# Altium schematic symbol library fpga_zynq.SchLib: 8 symbols (part 1 of 3)
Pins are listed as number, name and electrical type; pins without a type are passive.

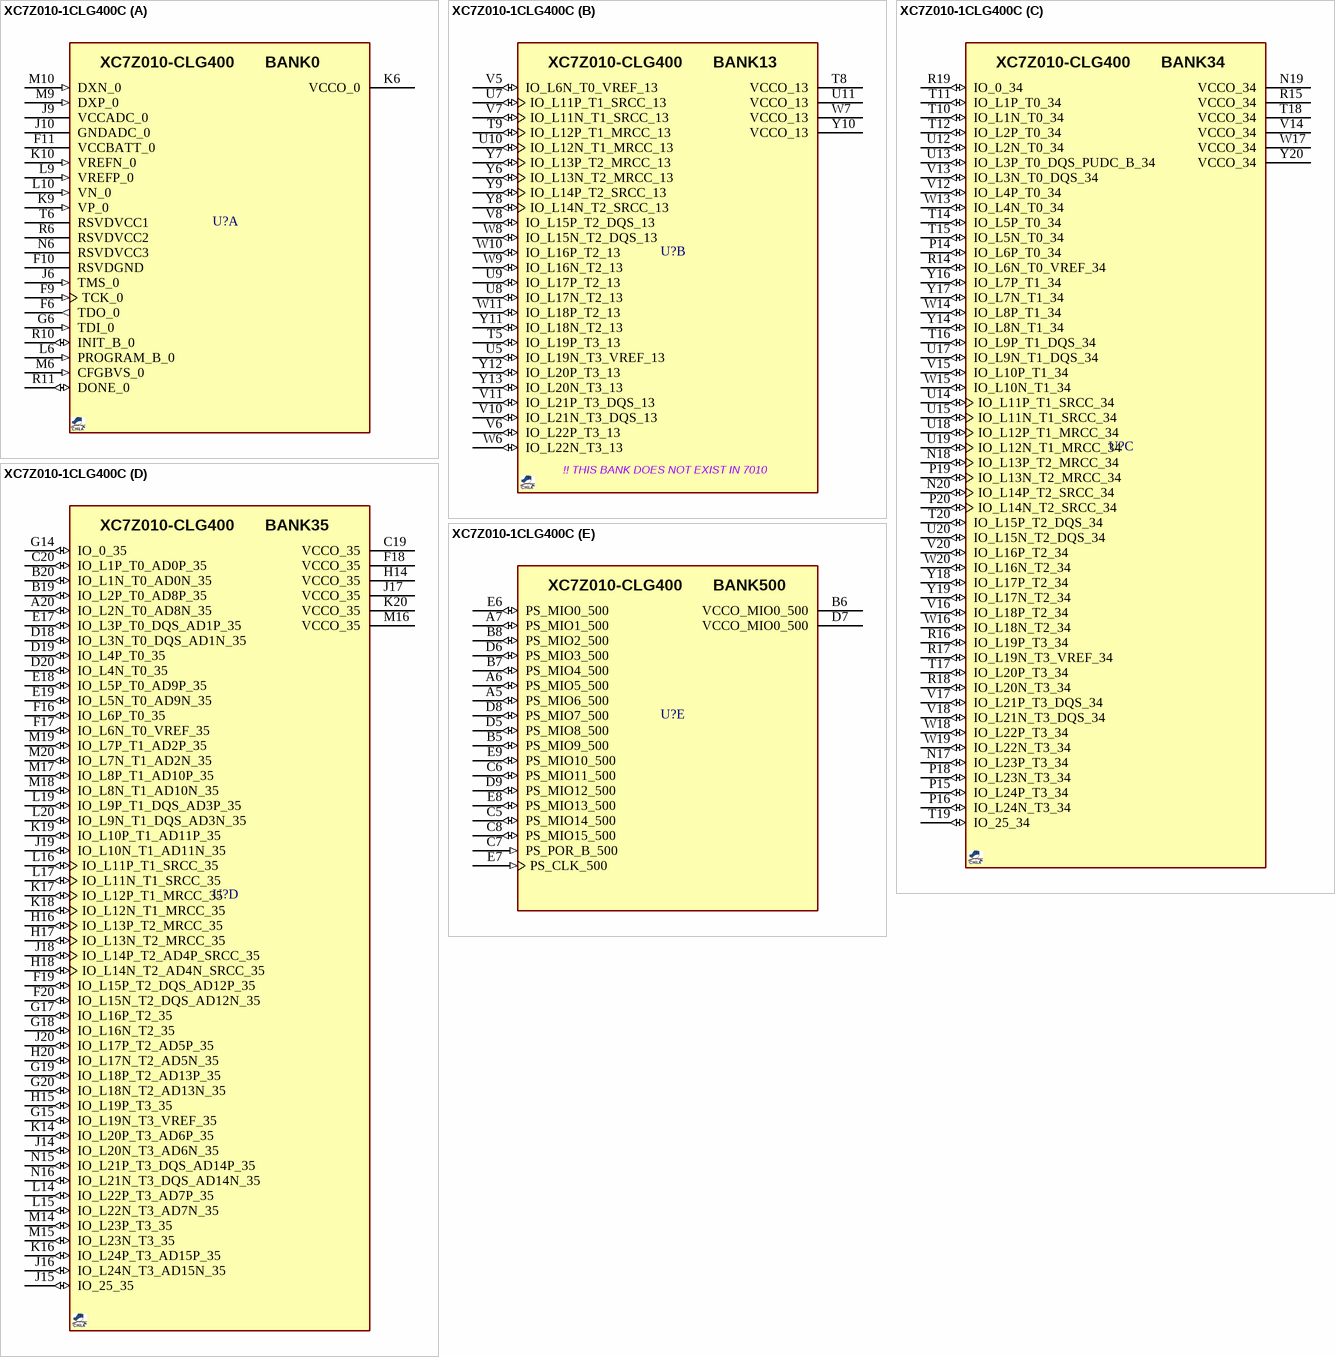
[diagram p0: symbol XC7Z010-1CLG400C]

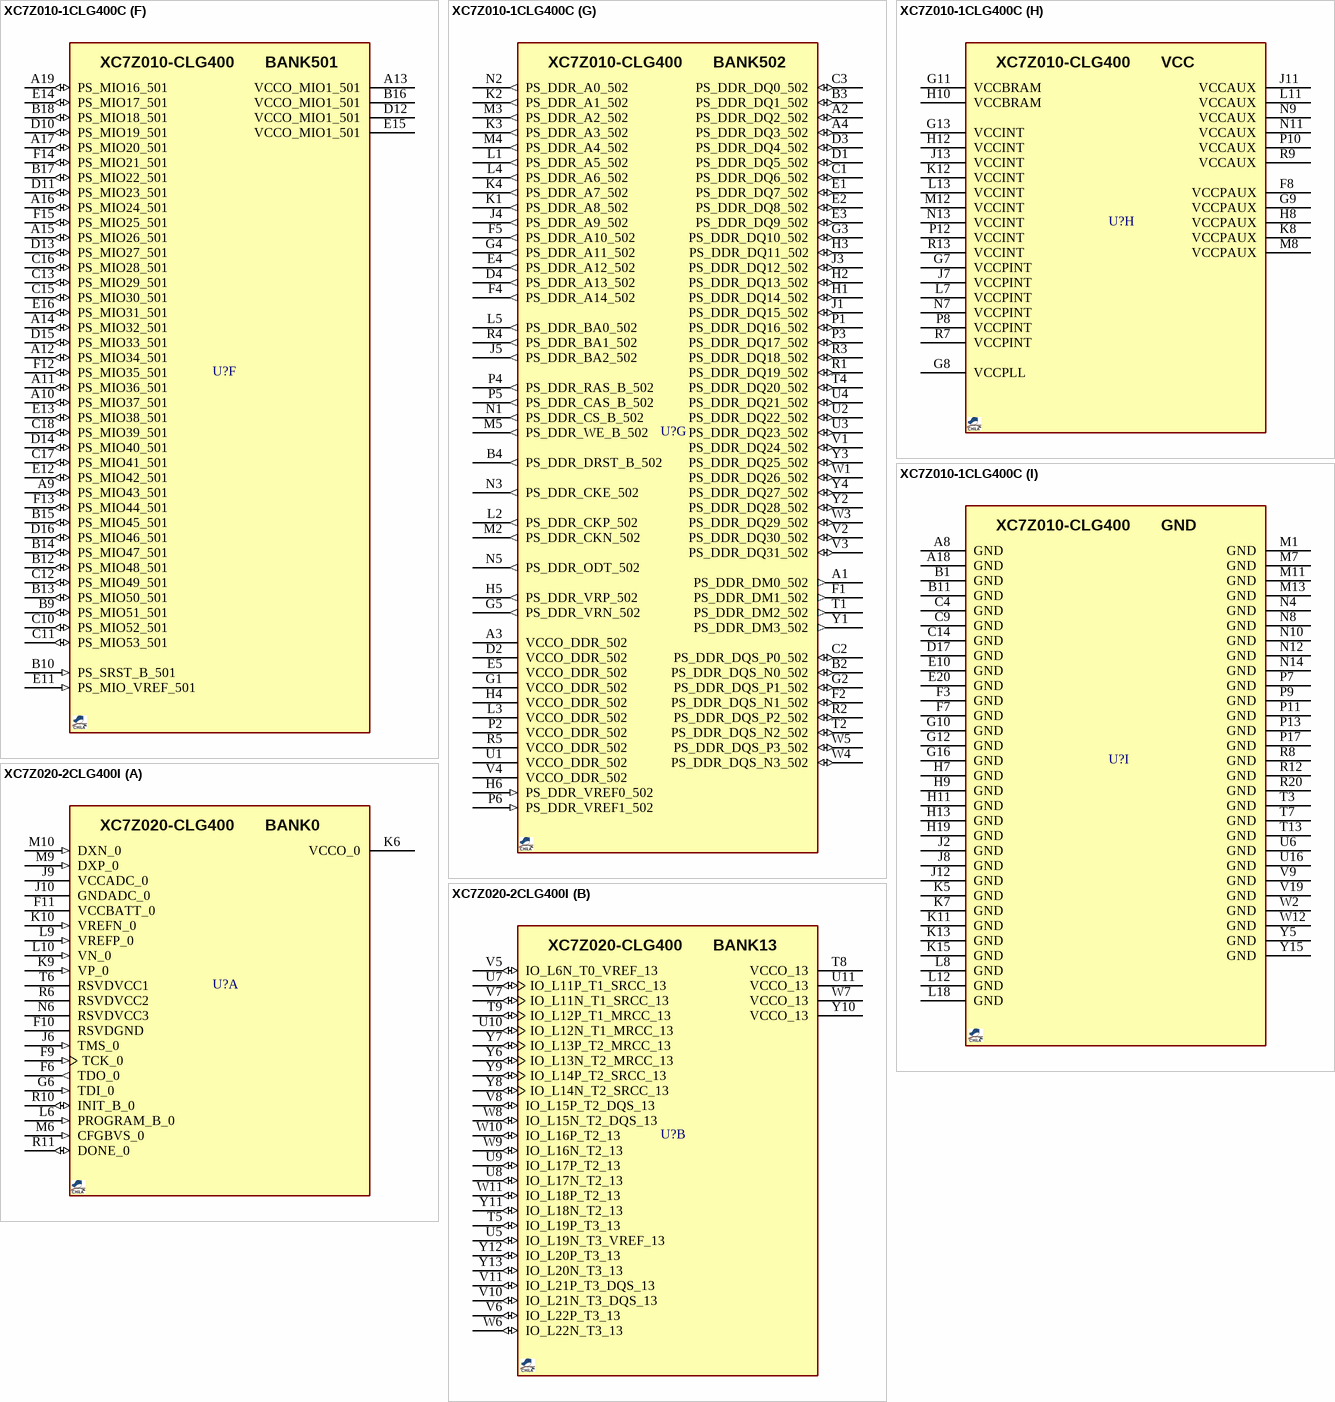
[diagram p1: symbols XC7Z010-1CLG400C to XC7Z020-2CLG400I]

## XC7Z010-1CLG400C
designator U?, comment XC7Z010-CLG400  (value not drawn)
667 MHz Zynq™-7000 AP SoC, 130 PS I/O, 100 FPGA I/O, 400-Ball BGA, Speed Grade 1, Commercial Grade; MANF: Xilinx; MANF_P#: XC7Z010-1CLG400C; VALUE: XC7Z010-CLG400
footprint BGA80_400_S17 (BGA, CLG400, 400-Balls, Body 17x17mm, Pitch 0.8mm)
part A pins: F6 TDO_0 (out), F9 TCK_0 (in), F10 RSVDGND (power), F11 VCCBATT_0 (power), G6 TDI_0 (in), J6 TMS_0 (in), J9 VCCADC_0 (power), J10 GNDADC_0 (power), K6 VCCO_0 (power), K9 VP_0 (in), K10 VREFN_0 (in), L6 PROGRAM_B_0 (in), L9 VREFP_0 (in), L10 VN_0 (in), M6 CFGBVS_0 (in), M9 DXP_0 (in), M10 DXN_0 (in), N6 RSVDVCC3 (power), R6 RSVDVCC2 (power), R10 INIT_B_0 (io), R11 DONE_0 (io), T6 RSVDVCC1 (power)
part B pins: T5 IO_L19P_T3_13 (io), T8 VCCO_13 (power), T9 IO_L12P_T1_MRCC_13 (io), U5 IO_L19N_T3_VREF_13 (io), U7 IO_L11P_T1_SRCC_13 (io), U8 IO_L17N_T2_13 (io), U9 IO_L17P_T2_13 (io), U10 IO_L12N_T1_MRCC_13 (io), U11 VCCO_13 (power), V5 IO_L6N_T0_VREF_13 (io), V6 IO_L22P_T3_13 (io), V7 IO_L11N_T1_SRCC_13 (io), V8 IO_L15P_T2_DQS_13 (io), V10 IO_L21N_T3_DQS_13 (io), V11 IO_L21P_T3_DQS_13 (io), W6 IO_L22N_T3_13 (io), W7 VCCO_13 (power), W8 IO_L15N_T2_DQS_13 (io), W9 IO_L16N_T2_13 (io), W10 IO_L16P_T2_13 (io), W11 IO_L18P_T2_13 (io), Y6 IO_L13N_T2_MRCC_13 (io), Y7 IO_L13P_T2_MRCC_13 (io), Y8 IO_L14N_T2_SRCC_13 (io), Y9 IO_L14P_T2_SRCC_13 (io), Y10 VCCO_13 (power), Y11 IO_L18N_T2_13 (io), Y12 IO_L20P_T3_13 (io), Y13 IO_L20N_T3_13 (io)
part C pins: N17 IO_L23P_T3_34 (io), N18 IO_L13P_T2_MRCC_34 (io), N19 VCCO_34 (power), N20 IO_L14P_T2_SRCC_34 (io), P14 IO_L6P_T0_34 (io), P15 IO_L24P_T3_34 (io), P16 IO_L24N_T3_34 (io), P18 IO_L23N_T3_34 (io), P19 IO_L13N_T2_MRCC_34 (io), P20 IO_L14N_T2_SRCC_34 (io), R14 IO_L6N_T0_VREF_34 (io), R15 VCCO_34 (power), R16 IO_L19P_T3_34 (io), R17 IO_L19N_T3_VREF_34 (io), R18 IO_L20N_T3_34 (io), R19 IO_0_34 (io), T10 IO_L1N_T0_34 (io), T11 IO_L1P_T0_34 (io), T12 IO_L2P_T0_34 (io), T14 IO_L5P_T0_34 (io), T15 IO_L5N_T0_34 (io), T16 IO_L9P_T1_DQS_34 (io), T17 IO_L20P_T3_34 (io), T18 VCCO_34 (power), T19 IO_25_34 (io), T20 IO_L15P_T2_DQS_34 (io), U12 IO_L2N_T0_34 (io), U13 IO_L3P_T0_DQS_PUDC_B_34 (io), U14 IO_L11P_T1_SRCC_34 (io), U15 IO_L11N_T1_SRCC_34 (io), U17 IO_L9N_T1_DQS_34 (io), U18 IO_L12P_T1_MRCC_34 (io), U19 IO_L12N_T1_MRCC_34 (io), U20 IO_L15N_T2_DQS_34 (io), V12 IO_L4P_T0_34 (io), V13 IO_L3N_T0_DQS_34 (io), V14 VCCO_34 (power), V15 IO_L10P_T1_34 (io), V16 IO_L18P_T2_34 (io), V17 IO_L21P_T3_DQS_34 (io), V18 IO_L21N_T3_DQS_34 (io), V20 IO_L16P_T2_34 (io), W13 IO_L4N_T0_34 (io), W14 IO_L8P_T1_34 (io), W15 IO_L10N_T1_34 (io), W16 IO_L18N_T2_34 (io), W17 VCCO_34 (power), W18 IO_L22P_T3_34 (io), W19 IO_L22N_T3_34 (io), W20 IO_L16N_T2_34 (io), Y14 IO_L8N_T1_34 (io), Y16 IO_L7P_T1_34 (io), Y17 IO_L7N_T1_34 (io), Y18 IO_L17P_T2_34 (io), Y19 IO_L17N_T2_34 (io), Y20 VCCO_34 (power)
part D pins: A20 IO_L2N_T0_AD8N_35 (io), B19 IO_L2P_T0_AD8P_35 (io), B20 IO_L1N_T0_AD0N_35 (io), C19 VCCO_35 (power), C20 IO_L1P_T0_AD0P_35 (io), D18 IO_L3N_T0_DQS_AD1N_35 (io), D19 IO_L4P_T0_35 (io), D20 IO_L4N_T0_35 (io), E17 IO_L3P_T0_DQS_AD1P_35 (io), E18 IO_L5P_T0_AD9P_35 (io), E19 IO_L5N_T0_AD9N_35 (io), F16 IO_L6P_T0_35 (io), F17 IO_L6N_T0_VREF_35 (io), F18 VCCO_35 (power), F19 IO_L15P_T2_DQS_AD12P_35 (io), F20 IO_L15N_T2_DQS_AD12N_35 (io), G14 IO_0_35 (io), G15 IO_L19N_T3_VREF_35 (io), G17 IO_L16P_T2_35 (io), G18 IO_L16N_T2_35 (io), G19 IO_L18P_T2_AD13P_35 (io), G20 IO_L18N_T2_AD13N_35 (io), H14 VCCO_35 (power), H15 IO_L19P_T3_35 (io), H16 IO_L13P_T2_MRCC_35 (io), H17 IO_L13N_T2_MRCC_35 (io), H18 IO_L14N_T2_AD4N_SRCC_35 (io), H20 IO_L17N_T2_AD5N_35 (io), J14 IO_L20N_T3_AD6N_35 (io), J15 IO_25_35 (io), J16 IO_L24N_T3_AD15N_35 (io), J17 VCCO_35 (power), J18 IO_L14P_T2_AD4P_SRCC_35 (io), J19 IO_L10N_T1_AD11N_35 (io), J20 IO_L17P_T2_AD5P_35 (io), K14 IO_L20P_T3_AD6P_35 (io), K16 IO_L24P_T3_AD15P_35 (io), K17 IO_L12P_T1_MRCC_35 (io), K18 IO_L12N_T1_MRCC_35 (io), K19 IO_L10P_T1_AD11P_35 (io), K20 VCCO_35 (power), L14 IO_L22P_T3_AD7P_35 (io), L15 IO_L22N_T3_AD7N_35 (io), L16 IO_L11P_T1_SRCC_35 (io), L17 IO_L11N_T1_SRCC_35 (io), L19 IO_L9P_T1_DQS_AD3P_35 (io), L20 IO_L9N_T1_DQS_AD3N_35 (io), M14 IO_L23P_T3_35 (io), M15 IO_L23N_T3_35 (io), M16 VCCO_35 (power), M17 IO_L8P_T1_AD10P_35 (io), M18 IO_L8N_T1_AD10N_35 (io), M19 IO_L7P_T1_AD2P_35 (io), M20 IO_L7N_T1_AD2N_35 (io), N15 IO_L21P_T3_DQS_AD14P_35 (io), N16 IO_L21N_T3_DQS_AD14N_35 (io)
part E pins: A5 PS_MIO6_500 (io), A6 PS_MIO5_500 (io), A7 PS_MIO1_500 (io), B5 PS_MIO9_500 (io), B6 VCCO_MIO0_500 (power), B7 PS_MIO4_500 (io), B8 PS_MIO2_500 (io), C5 PS_MIO14_500 (io), C6 PS_MIO11_500 (io), C7 PS_POR_B_500 (in), C8 PS_MIO15_500 (io), D5 PS_MIO8_500 (io), D6 PS_MIO3_500 (io), D7 VCCO_MIO0_500 (power), D8 PS_MIO7_500 (io), D9 PS_MIO12_500 (io), E6 PS_MIO0_500 (io), E7 PS_CLK_500 (in), E8 PS_MIO13_500 (io), E9 PS_MIO10_500 (io)
part F pins: A9 PS_MIO43_501 (io), A10 PS_MIO37_501 (io), A11 PS_MIO36_501 (io), A12 PS_MIO34_501 (io), A13 VCCO_MIO1_501 (power), A14 PS_MIO32_501 (io), A15 PS_MIO26_501 (io), A16 PS_MIO24_501 (io), A17 PS_MIO20_501 (io), A19 PS_MIO16_501 (io), B9 PS_MIO51_501 (io), B10 PS_SRST_B_501 (in), B12 PS_MIO48_501 (io), B13 PS_MIO50_501 (io), B14 PS_MIO47_501 (io), B15 PS_MIO45_501 (io), B16 VCCO_MIO1_501 (power), B17 PS_MIO22_501 (io), B18 PS_MIO18_501 (io), C10 PS_MIO52_501 (io), C11 PS_MIO53_501 (io), C12 PS_MIO49_501 (io), C13 PS_MIO29_501 (io), C15 PS_MIO30_501 (io), C16 PS_MIO28_501 (io), C17 PS_MIO41_501 (io), C18 PS_MIO39_501 (io), D10 PS_MIO19_501 (io), D11 PS_MIO23_501 (io), D12 VCCO_MIO1_501 (power), D13 PS_MIO27_501 (io), D14 PS_MIO40_501 (io), D15 PS_MIO33_501 (io), D16 PS_MIO46_501 (io), E11 PS_MIO_VREF_501 (in), E12 PS_MIO42_501 (io), E13 PS_MIO38_501 (io), E14 PS_MIO17_501 (io), E15 VCCO_MIO1_501 (power), E16 PS_MIO31_501 (io), F12 PS_MIO35_501 (io), F13 PS_MIO44_501 (io), F14 PS_MIO21_501 (io), F15 PS_MIO25_501 (io)
part G pins: A1 PS_DDR_DM0_502 (out), A2 PS_DDR_DQ2_502 (io), A3 VCCO_DDR_502 (power), A4 PS_DDR_DQ3_502 (io), B2 PS_DDR_DQS_N0_502 (io), B3 PS_DDR_DQ1_502 (io), B4 PS_DDR_DRST_B_502 (out), C1 PS_DDR_DQ6_502 (io), C2 PS_DDR_DQS_P0_502 (io), C3 PS_DDR_DQ0_502 (io), D1 PS_DDR_DQ5_502 (io), D2 VCCO_DDR_502 (power), D3 PS_DDR_DQ4_502 (io), D4 PS_DDR_A13_502 (out), E1 PS_DDR_DQ7_502 (io), E2 PS_DDR_DQ8_502 (io), E3 PS_DDR_DQ9_502 (io), E4 PS_DDR_A12_502 (out), E5 VCCO_DDR_502 (power), F1 PS_DDR_DM1_502 (out), F2 PS_DDR_DQS_N1_502 (io), F4 PS_DDR_A14_502 (out), F5 PS_DDR_A10_502 (out), G1 VCCO_DDR_502 (power), G2 PS_DDR_DQS_P1_502 (io), G3 PS_DDR_DQ10_502 (io), G4 PS_DDR_A11_502 (out), G5 PS_DDR_VRN_502 (out), H1 PS_DDR_DQ14_502 (io), H2 PS_DDR_DQ13_502 (io), H3 PS_DDR_DQ11_502 (io), H4 VCCO_DDR_502 (power), H5 PS_DDR_VRP_502 (out), H6 PS_DDR_VREF0_502 (in), J1 PS_DDR_DQ15_502 (io), J3 PS_DDR_DQ12_502 (io), J4 PS_DDR_A9_502 (out), J5 PS_DDR_BA2_502 (out), K1 PS_DDR_A8_502 (out), K2 PS_DDR_A1_502 (out), K3 PS_DDR_A3_502 (out), K4 PS_DDR_A7_502 (out), L1 PS_DDR_A5_502 (out), L2 PS_DDR_CKP_502 (out), L3 VCCO_DDR_502 (power), L4 PS_DDR_A6_502 (out), L5 PS_DDR_BA0_502 (out), M2 PS_DDR_CKN_502 (out), M3 PS_DDR_A2_502 (out), M4 PS_DDR_A4_502 (out), M5 PS_DDR_WE_B_502 (out), N1 PS_DDR_CS_B_502 (out), N2 PS_DDR_A0_502 (out), N3 PS_DDR_CKE_502 (out), N5 PS_DDR_ODT_502 (out), P1 PS_DDR_DQ16_502 (io), P2 VCCO_DDR_502 (power), P3 PS_DDR_DQ17_502 (io), P4 PS_DDR_RAS_B_502 (out), P5 PS_DDR_CAS_B_502 (out), P6 PS_DDR_VREF1_502 (in), R1 PS_DDR_DQ19_502 (io), R2 PS_DDR_DQS_P2_502 (io), R3 PS_DDR_DQ18_502 (io), R4 PS_DDR_BA1_502 (out), R5 VCCO_DDR_502 (power), T1 PS_DDR_DM2_502 (out), T2 PS_DDR_DQS_N2_502 (io), T4 PS_DDR_DQ20_502 (io), U1 VCCO_DDR_502 (power), U2 PS_DDR_DQ22_502 (io), U3 PS_DDR_DQ23_502 (io), U4 PS_DDR_DQ21_502 (io), V1 PS_DDR_DQ24_502 (io), V2 PS_DDR_DQ30_502 (io), V3 PS_DDR_DQ31_502 (io), V4 VCCO_DDR_502 (power), W1 PS_DDR_DQ26_502 (io), W3 PS_DDR_DQ29_502 (io), W4 PS_DDR_DQS_N3_502 (io), W5 PS_DDR_DQS_P3_502 (io), Y1 PS_DDR_DM3_502 (out), Y2 PS_DDR_DQ28_502 (io), Y3 PS_DDR_DQ25_502 (io), Y4 PS_DDR_DQ27_502 (io)
part H pins: F8 VCCPAUX (power), G7 VCCPINT (power), G8 VCCPLL (power), G9 VCCPAUX (power), G11 VCCBRAM (power), G13 VCCINT (power), H8 VCCPAUX (power), H10 VCCBRAM (power), H12 VCCINT (power), J7 VCCPINT (power), J11 VCCAUX (power), J13 VCCINT (power), K8 VCCPAUX (power), K12 VCCINT (power), L7 VCCPINT (power), L11 VCCAUX (power), L13 VCCINT (power), M8 VCCPAUX (power), M12 VCCINT (power), N7 VCCPINT (power), N9 VCCAUX (power), N11 VCCAUX (power), N13 VCCINT (power), P8 VCCPINT (power), P10 VCCAUX (power), P12 VCCINT (power), R7 VCCPINT (power), R9 VCCAUX (power), R13 VCCINT (power)
part I pins: A8 GND (power), A18 GND (power), B1 GND (power), B11 GND (power), C4 GND (power), C9 GND (power), C14 GND (power), D17 GND (power), E10 GND (power), E20 GND (power), F3 GND (power), F7 GND (power), G10 GND (power), G12 GND (power), G16 GND (power), H7 GND (power), H9 GND (power), H11 GND (power), H13 GND (power), H19 GND (power), J2 GND (power), J8 GND (power), J12 GND (power), K5 GND (power), K7 GND (power), K11 GND (power), K13 GND (power), K15 GND (power), L8 GND (power), L12 GND (power), L18 GND (power), M1 GND (power), M7 GND (power), M11 GND (power), M13 GND (power), N4 GND (power), N8 GND (power), N10 GND (power), N12 GND (power), N14 GND (power), P7 GND (power), P9 GND (power), P11 GND (power), P13 GND (power), P17 GND (power), R8 GND (power), R12 GND (power), R20 GND (power), T3 GND (power), T7 GND (power), T13 GND (power), U6 GND (power), U16 GND (power), V9 GND (power), V19 GND (power), W2 GND (power), W12 GND (power), Y5 GND (power), Y15 GND (power)
part A text: BANK0
part B text: BANK13; !! THIS BANK DOES NOT EXIST IN 7010
part C text: BANK34
part D text: BANK35
part E text: BANK500
part F text: BANK501
part G text: BANK502
part H text: VCC

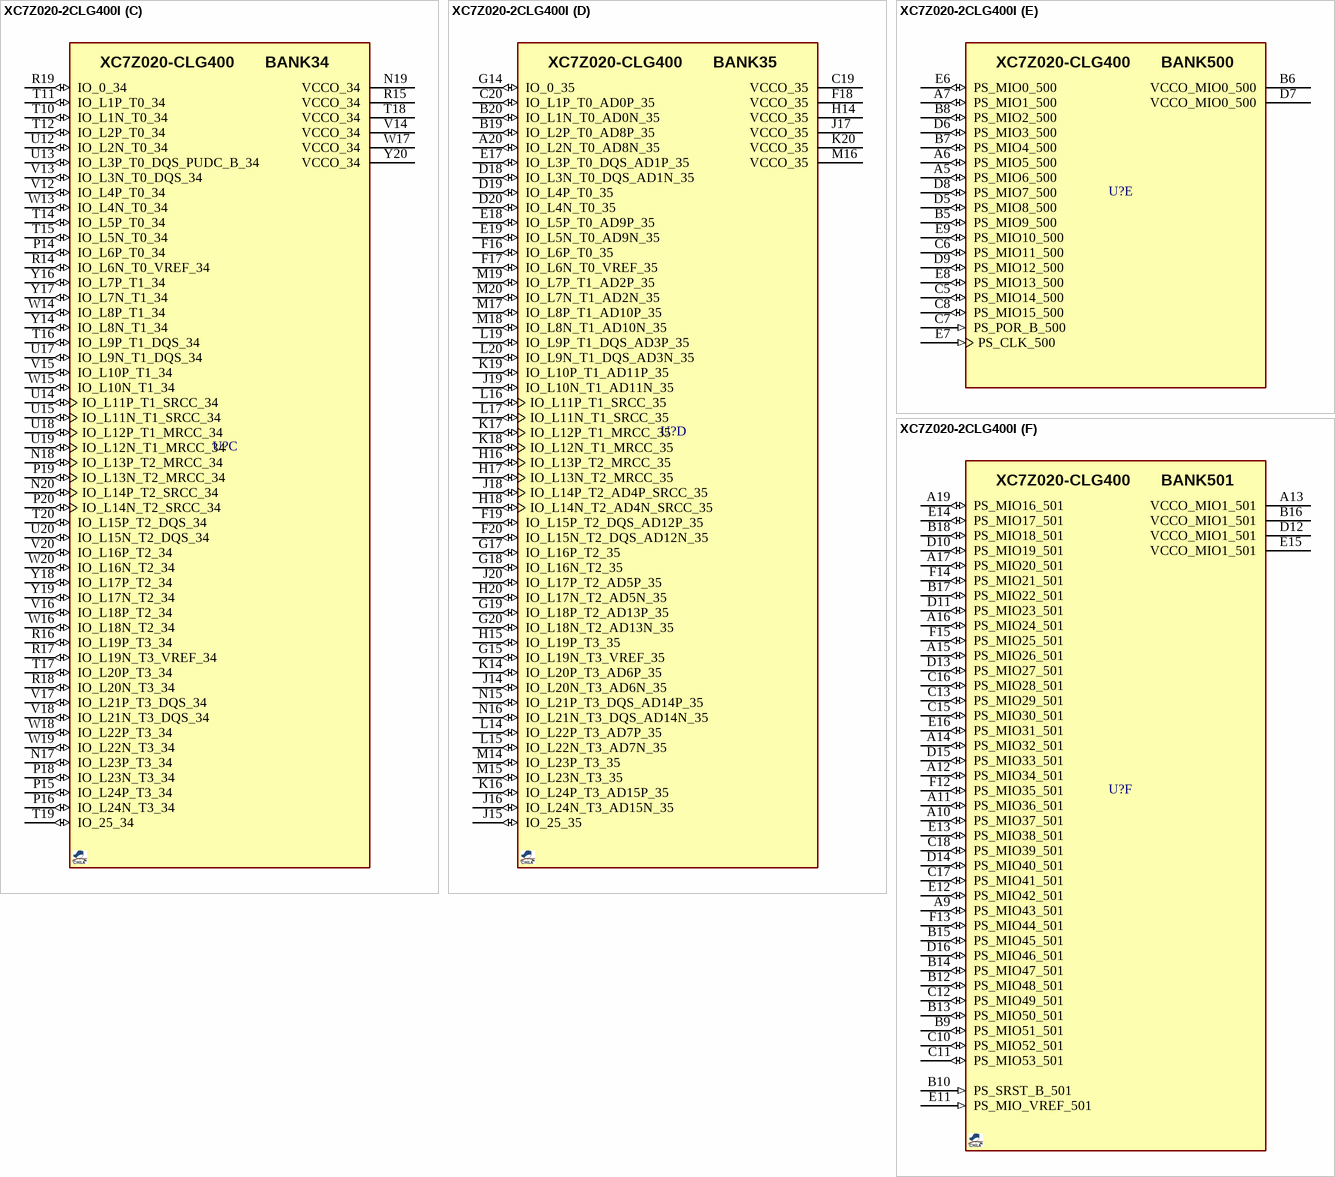
[diagram p2: symbol XC7Z020-2CLG400I]

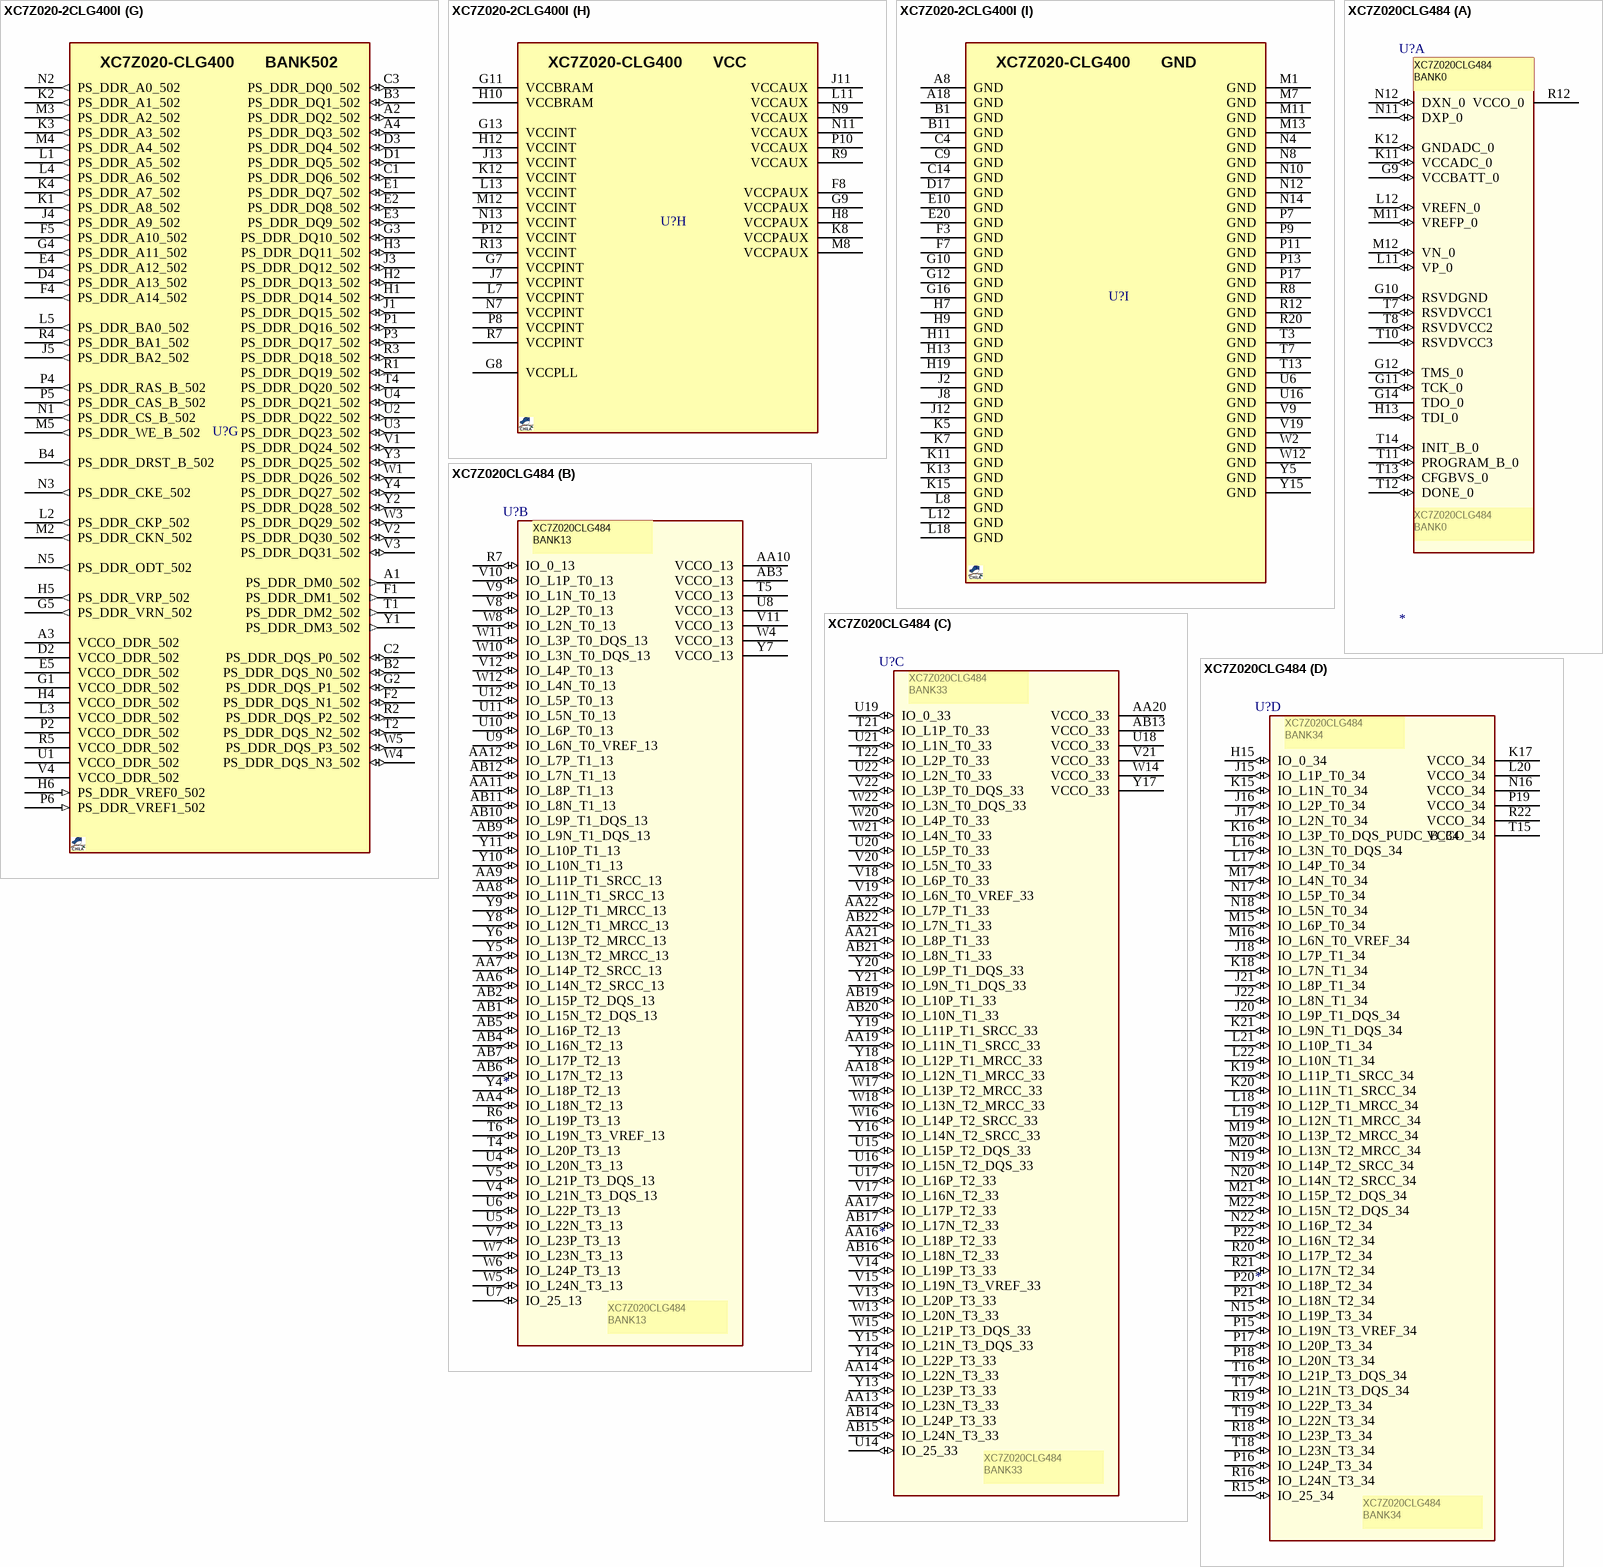
[diagram p3: symbols XC7Z020-2CLG400I to XC7Z020CLG484]

## XC7Z020-2CLG400I
designator U?, comment XC7Z020-CLG400  (value not drawn)
733 MHz Zynq™-7000 AP SoC, 130 PS I/O, 125 FPGA I/O, 400-Ball BGA, Speed Grade 2, Industrial Grade; MANF: Xilinx; MANF_P#: XC7Z020-2CLG400I; VALUE: XC7Z020-CLG400
footprint BGA80_400_S17 (BGA, CLG400, 400-Balls, Body 17x17mm, Pitch 0.8mm)
part A pins: F6 TDO_0 (out), F9 TCK_0 (in), F10 RSVDGND (power), F11 VCCBATT_0 (power), G6 TDI_0 (in), J6 TMS_0 (in), J9 VCCADC_0 (power), J10 GNDADC_0 (power), K6 VCCO_0 (power), K9 VP_0 (in), K10 VREFN_0 (in), L6 PROGRAM_B_0 (in), L9 VREFP_0 (in), L10 VN_0 (in), M6 CFGBVS_0 (in), M9 DXP_0 (in), M10 DXN_0 (in), N6 RSVDVCC3 (power), R6 RSVDVCC2 (power), R10 INIT_B_0 (io), R11 DONE_0 (io), T6 RSVDVCC1 (power)
part B pins: T5 IO_L19P_T3_13 (io), T8 VCCO_13 (power), T9 IO_L12P_T1_MRCC_13 (io), U5 IO_L19N_T3_VREF_13 (io), U7 IO_L11P_T1_SRCC_13 (io), U8 IO_L17N_T2_13 (io), U9 IO_L17P_T2_13 (io), U10 IO_L12N_T1_MRCC_13 (io), U11 VCCO_13 (power), V5 IO_L6N_T0_VREF_13 (io), V6 IO_L22P_T3_13 (io), V7 IO_L11N_T1_SRCC_13 (io), V8 IO_L15P_T2_DQS_13 (io), V10 IO_L21N_T3_DQS_13 (io), V11 IO_L21P_T3_DQS_13 (io), W6 IO_L22N_T3_13 (io), W7 VCCO_13 (power), W8 IO_L15N_T2_DQS_13 (io), W9 IO_L16N_T2_13 (io), W10 IO_L16P_T2_13 (io), W11 IO_L18P_T2_13 (io), Y6 IO_L13N_T2_MRCC_13 (io), Y7 IO_L13P_T2_MRCC_13 (io), Y8 IO_L14N_T2_SRCC_13 (io), Y9 IO_L14P_T2_SRCC_13 (io), Y10 VCCO_13 (power), Y11 IO_L18N_T2_13 (io), Y12 IO_L20P_T3_13 (io), Y13 IO_L20N_T3_13 (io)
part C pins: N17 IO_L23P_T3_34 (io), N18 IO_L13P_T2_MRCC_34 (io), N19 VCCO_34 (power), N20 IO_L14P_T2_SRCC_34 (io), P14 IO_L6P_T0_34 (io), P15 IO_L24P_T3_34 (io), P16 IO_L24N_T3_34 (io), P18 IO_L23N_T3_34 (io), P19 IO_L13N_T2_MRCC_34 (io), P20 IO_L14N_T2_SRCC_34 (io), R14 IO_L6N_T0_VREF_34 (io), R15 VCCO_34 (power), R16 IO_L19P_T3_34 (io), R17 IO_L19N_T3_VREF_34 (io), R18 IO_L20N_T3_34 (io), R19 IO_0_34 (io), T10 IO_L1N_T0_34 (io), T11 IO_L1P_T0_34 (io), T12 IO_L2P_T0_34 (io), T14 IO_L5P_T0_34 (io), T15 IO_L5N_T0_34 (io), T16 IO_L9P_T1_DQS_34 (io), T17 IO_L20P_T3_34 (io), T18 VCCO_34 (power), T19 IO_25_34 (io), T20 IO_L15P_T2_DQS_34 (io), U12 IO_L2N_T0_34 (io), U13 IO_L3P_T0_DQS_PUDC_B_34 (io), U14 IO_L11P_T1_SRCC_34 (io), U15 IO_L11N_T1_SRCC_34 (io), U17 IO_L9N_T1_DQS_34 (io), U18 IO_L12P_T1_MRCC_34 (io), U19 IO_L12N_T1_MRCC_34 (io), U20 IO_L15N_T2_DQS_34 (io), V12 IO_L4P_T0_34 (io), V13 IO_L3N_T0_DQS_34 (io), V14 VCCO_34 (power), V15 IO_L10P_T1_34 (io), V16 IO_L18P_T2_34 (io), V17 IO_L21P_T3_DQS_34 (io), V18 IO_L21N_T3_DQS_34 (io), V20 IO_L16P_T2_34 (io), W13 IO_L4N_T0_34 (io), W14 IO_L8P_T1_34 (io), W15 IO_L10N_T1_34 (io), W16 IO_L18N_T2_34 (io), W17 VCCO_34 (power), W18 IO_L22P_T3_34 (io), W19 IO_L22N_T3_34 (io), W20 IO_L16N_T2_34 (io), Y14 IO_L8N_T1_34 (io), Y16 IO_L7P_T1_34 (io), Y17 IO_L7N_T1_34 (io), Y18 IO_L17P_T2_34 (io), Y19 IO_L17N_T2_34 (io), Y20 VCCO_34 (power)
part D pins: A20 IO_L2N_T0_AD8N_35 (io), B19 IO_L2P_T0_AD8P_35 (io), B20 IO_L1N_T0_AD0N_35 (io), C19 VCCO_35 (power), C20 IO_L1P_T0_AD0P_35 (io), D18 IO_L3N_T0_DQS_AD1N_35 (io), D19 IO_L4P_T0_35 (io), D20 IO_L4N_T0_35 (io), E17 IO_L3P_T0_DQS_AD1P_35 (io), E18 IO_L5P_T0_AD9P_35 (io), E19 IO_L5N_T0_AD9N_35 (io), F16 IO_L6P_T0_35 (io), F17 IO_L6N_T0_VREF_35 (io), F18 VCCO_35 (power), F19 IO_L15P_T2_DQS_AD12P_35 (io), F20 IO_L15N_T2_DQS_AD12N_35 (io), G14 IO_0_35 (io), G15 IO_L19N_T3_VREF_35 (io), G17 IO_L16P_T2_35 (io), G18 IO_L16N_T2_35 (io), G19 IO_L18P_T2_AD13P_35 (io), G20 IO_L18N_T2_AD13N_35 (io), H14 VCCO_35 (power), H15 IO_L19P_T3_35 (io), H16 IO_L13P_T2_MRCC_35 (io), H17 IO_L13N_T2_MRCC_35 (io), H18 IO_L14N_T2_AD4N_SRCC_35 (io), H20 IO_L17N_T2_AD5N_35 (io), J14 IO_L20N_T3_AD6N_35 (io), J15 IO_25_35 (io), J16 IO_L24N_T3_AD15N_35 (io), J17 VCCO_35 (power), J18 IO_L14P_T2_AD4P_SRCC_35 (io), J19 IO_L10N_T1_AD11N_35 (io), J20 IO_L17P_T2_AD5P_35 (io), K14 IO_L20P_T3_AD6P_35 (io), K16 IO_L24P_T3_AD15P_35 (io), K17 IO_L12P_T1_MRCC_35 (io), K18 IO_L12N_T1_MRCC_35 (io), K19 IO_L10P_T1_AD11P_35 (io), K20 VCCO_35 (power), L14 IO_L22P_T3_AD7P_35 (io), L15 IO_L22N_T3_AD7N_35 (io), L16 IO_L11P_T1_SRCC_35 (io), L17 IO_L11N_T1_SRCC_35 (io), L19 IO_L9P_T1_DQS_AD3P_35 (io), L20 IO_L9N_T1_DQS_AD3N_35 (io), M14 IO_L23P_T3_35 (io), M15 IO_L23N_T3_35 (io), M16 VCCO_35 (power), M17 IO_L8P_T1_AD10P_35 (io), M18 IO_L8N_T1_AD10N_35 (io), M19 IO_L7P_T1_AD2P_35 (io), M20 IO_L7N_T1_AD2N_35 (io), N15 IO_L21P_T3_DQS_AD14P_35 (io), N16 IO_L21N_T3_DQS_AD14N_35 (io)
part E pins: A5 PS_MIO6_500 (io), A6 PS_MIO5_500 (io), A7 PS_MIO1_500 (io), B5 PS_MIO9_500 (io), B6 VCCO_MIO0_500 (power), B7 PS_MIO4_500 (io), B8 PS_MIO2_500 (io), C5 PS_MIO14_500 (io), C6 PS_MIO11_500 (io), C7 PS_POR_B_500 (in), C8 PS_MIO15_500 (io), D5 PS_MIO8_500 (io), D6 PS_MIO3_500 (io), D7 VCCO_MIO0_500 (power), D8 PS_MIO7_500 (io), D9 PS_MIO12_500 (io), E6 PS_MIO0_500 (io), E7 PS_CLK_500 (in), E8 PS_MIO13_500 (io), E9 PS_MIO10_500 (io)
part F pins: A9 PS_MIO43_501 (io), A10 PS_MIO37_501 (io), A11 PS_MIO36_501 (io), A12 PS_MIO34_501 (io), A13 VCCO_MIO1_501 (power), A14 PS_MIO32_501 (io), A15 PS_MIO26_501 (io), A16 PS_MIO24_501 (io), A17 PS_MIO20_501 (io), A19 PS_MIO16_501 (io), B9 PS_MIO51_501 (io), B10 PS_SRST_B_501 (in), B12 PS_MIO48_501 (io), B13 PS_MIO50_501 (io), B14 PS_MIO47_501 (io), B15 PS_MIO45_501 (io), B16 VCCO_MIO1_501 (power), B17 PS_MIO22_501 (io), B18 PS_MIO18_501 (io), C10 PS_MIO52_501 (io), C11 PS_MIO53_501 (io), C12 PS_MIO49_501 (io), C13 PS_MIO29_501 (io), C15 PS_MIO30_501 (io), C16 PS_MIO28_501 (io), C17 PS_MIO41_501 (io), C18 PS_MIO39_501 (io), D10 PS_MIO19_501 (io), D11 PS_MIO23_501 (io), D12 VCCO_MIO1_501 (power), D13 PS_MIO27_501 (io), D14 PS_MIO40_501 (io), D15 PS_MIO33_501 (io), D16 PS_MIO46_501 (io), E11 PS_MIO_VREF_501 (in), E12 PS_MIO42_501 (io), E13 PS_MIO38_501 (io), E14 PS_MIO17_501 (io), E15 VCCO_MIO1_501 (power), E16 PS_MIO31_501 (io), F12 PS_MIO35_501 (io), F13 PS_MIO44_501 (io), F14 PS_MIO21_501 (io), F15 PS_MIO25_501 (io)
part G pins: A1 PS_DDR_DM0_502 (out), A2 PS_DDR_DQ2_502 (io), A3 VCCO_DDR_502 (power), A4 PS_DDR_DQ3_502 (io), B2 PS_DDR_DQS_N0_502 (io), B3 PS_DDR_DQ1_502 (io), B4 PS_DDR_DRST_B_502 (out), C1 PS_DDR_DQ6_502 (io), C2 PS_DDR_DQS_P0_502 (io), C3 PS_DDR_DQ0_502 (io), D1 PS_DDR_DQ5_502 (io), D2 VCCO_DDR_502 (power), D3 PS_DDR_DQ4_502 (io), D4 PS_DDR_A13_502 (out), E1 PS_DDR_DQ7_502 (io), E2 PS_DDR_DQ8_502 (io), E3 PS_DDR_DQ9_502 (io), E4 PS_DDR_A12_502 (out), E5 VCCO_DDR_502 (power), F1 PS_DDR_DM1_502 (out), F2 PS_DDR_DQS_N1_502 (io), F4 PS_DDR_A14_502 (out), F5 PS_DDR_A10_502 (out), G1 VCCO_DDR_502 (power), G2 PS_DDR_DQS_P1_502 (io), G3 PS_DDR_DQ10_502 (io), G4 PS_DDR_A11_502 (out), G5 PS_DDR_VRN_502 (out), H1 PS_DDR_DQ14_502 (io), H2 PS_DDR_DQ13_502 (io), H3 PS_DDR_DQ11_502 (io), H4 VCCO_DDR_502 (power), H5 PS_DDR_VRP_502 (out), H6 PS_DDR_VREF0_502 (in), J1 PS_DDR_DQ15_502 (io), J3 PS_DDR_DQ12_502 (io), J4 PS_DDR_A9_502 (out), J5 PS_DDR_BA2_502 (out), K1 PS_DDR_A8_502 (out), K2 PS_DDR_A1_502 (out), K3 PS_DDR_A3_502 (out), K4 PS_DDR_A7_502 (out), L1 PS_DDR_A5_502 (out), L2 PS_DDR_CKP_502 (out), L3 VCCO_DDR_502 (power), L4 PS_DDR_A6_502 (out), L5 PS_DDR_BA0_502 (out), M2 PS_DDR_CKN_502 (out), M3 PS_DDR_A2_502 (out), M4 PS_DDR_A4_502 (out), M5 PS_DDR_WE_B_502 (out), N1 PS_DDR_CS_B_502 (out), N2 PS_DDR_A0_502 (out), N3 PS_DDR_CKE_502 (out), N5 PS_DDR_ODT_502 (out), P1 PS_DDR_DQ16_502 (io), P2 VCCO_DDR_502 (power), P3 PS_DDR_DQ17_502 (io), P4 PS_DDR_RAS_B_502 (out), P5 PS_DDR_CAS_B_502 (out), P6 PS_DDR_VREF1_502 (in), R1 PS_DDR_DQ19_502 (io), R2 PS_DDR_DQS_P2_502 (io), R3 PS_DDR_DQ18_502 (io), R4 PS_DDR_BA1_502 (out), R5 VCCO_DDR_502 (power), T1 PS_DDR_DM2_502 (out), T2 PS_DDR_DQS_N2_502 (io), T4 PS_DDR_DQ20_502 (io), U1 VCCO_DDR_502 (power), U2 PS_DDR_DQ22_502 (io), U3 PS_DDR_DQ23_502 (io), U4 PS_DDR_DQ21_502 (io), V1 PS_DDR_DQ24_502 (io), V2 PS_DDR_DQ30_502 (io), V3 PS_DDR_DQ31_502 (io), V4 VCCO_DDR_502 (power), W1 PS_DDR_DQ26_502 (io), W3 PS_DDR_DQ29_502 (io), W4 PS_DDR_DQS_N3_502 (io), W5 PS_DDR_DQS_P3_502 (io), Y1 PS_DDR_DM3_502 (out), Y2 PS_DDR_DQ28_502 (io), Y3 PS_DDR_DQ25_502 (io), Y4 PS_DDR_DQ27_502 (io)
part H pins: F8 VCCPAUX (power), G7 VCCPINT (power), G8 VCCPLL (power), G9 VCCPAUX (power), G11 VCCBRAM (power), G13 VCCINT (power), H8 VCCPAUX (power), H10 VCCBRAM (power), H12 VCCINT (power), J7 VCCPINT (power), J11 VCCAUX (power), J13 VCCINT (power), K8 VCCPAUX (power), K12 VCCINT (power), L7 VCCPINT (power), L11 VCCAUX (power), L13 VCCINT (power), M8 VCCPAUX (power), M12 VCCINT (power), N7 VCCPINT (power), N9 VCCAUX (power), N11 VCCAUX (power), N13 VCCINT (power), P8 VCCPINT (power), P10 VCCAUX (power), P12 VCCINT (power), R7 VCCPINT (power), R9 VCCAUX (power), R13 VCCINT (power)
part I pins: A8 GND (power), A18 GND (power), B1 GND (power), B11 GND (power), C4 GND (power), C9 GND (power), C14 GND (power), D17 GND (power), E10 GND (power), E20 GND (power), F3 GND (power), F7 GND (power), G10 GND (power), G12 GND (power), G16 GND (power), H7 GND (power), H9 GND (power), H11 GND (power), H13 GND (power), H19 GND (power), J2 GND (power), J8 GND (power), J12 GND (power), K5 GND (power), K7 GND (power), K11 GND (power), K13 GND (power), K15 GND (power), L8 GND (power), L12 GND (power), L18 GND (power), M1 GND (power), M7 GND (power), M11 GND (power), M13 GND (power), N4 GND (power), N8 GND (power), N10 GND (power), N12 GND (power), N14 GND (power), P7 GND (power), P9 GND (power), P11 GND (power), P13 GND (power), P17 GND (power), R8 GND (power), R12 GND (power), R20 GND (power), T3 GND (power), T7 GND (power), T13 GND (power), U6 GND (power), U16 GND (power), V9 GND (power), V19 GND (power), W2 GND (power), W12 GND (power), Y5 GND (power), Y15 GND (power)
part A text: BANK0
part B text: BANK13
part C text: BANK34
part D text: BANK35
part E text: BANK500
part F text: BANK501
part G text: BANK502
part H text: VCC

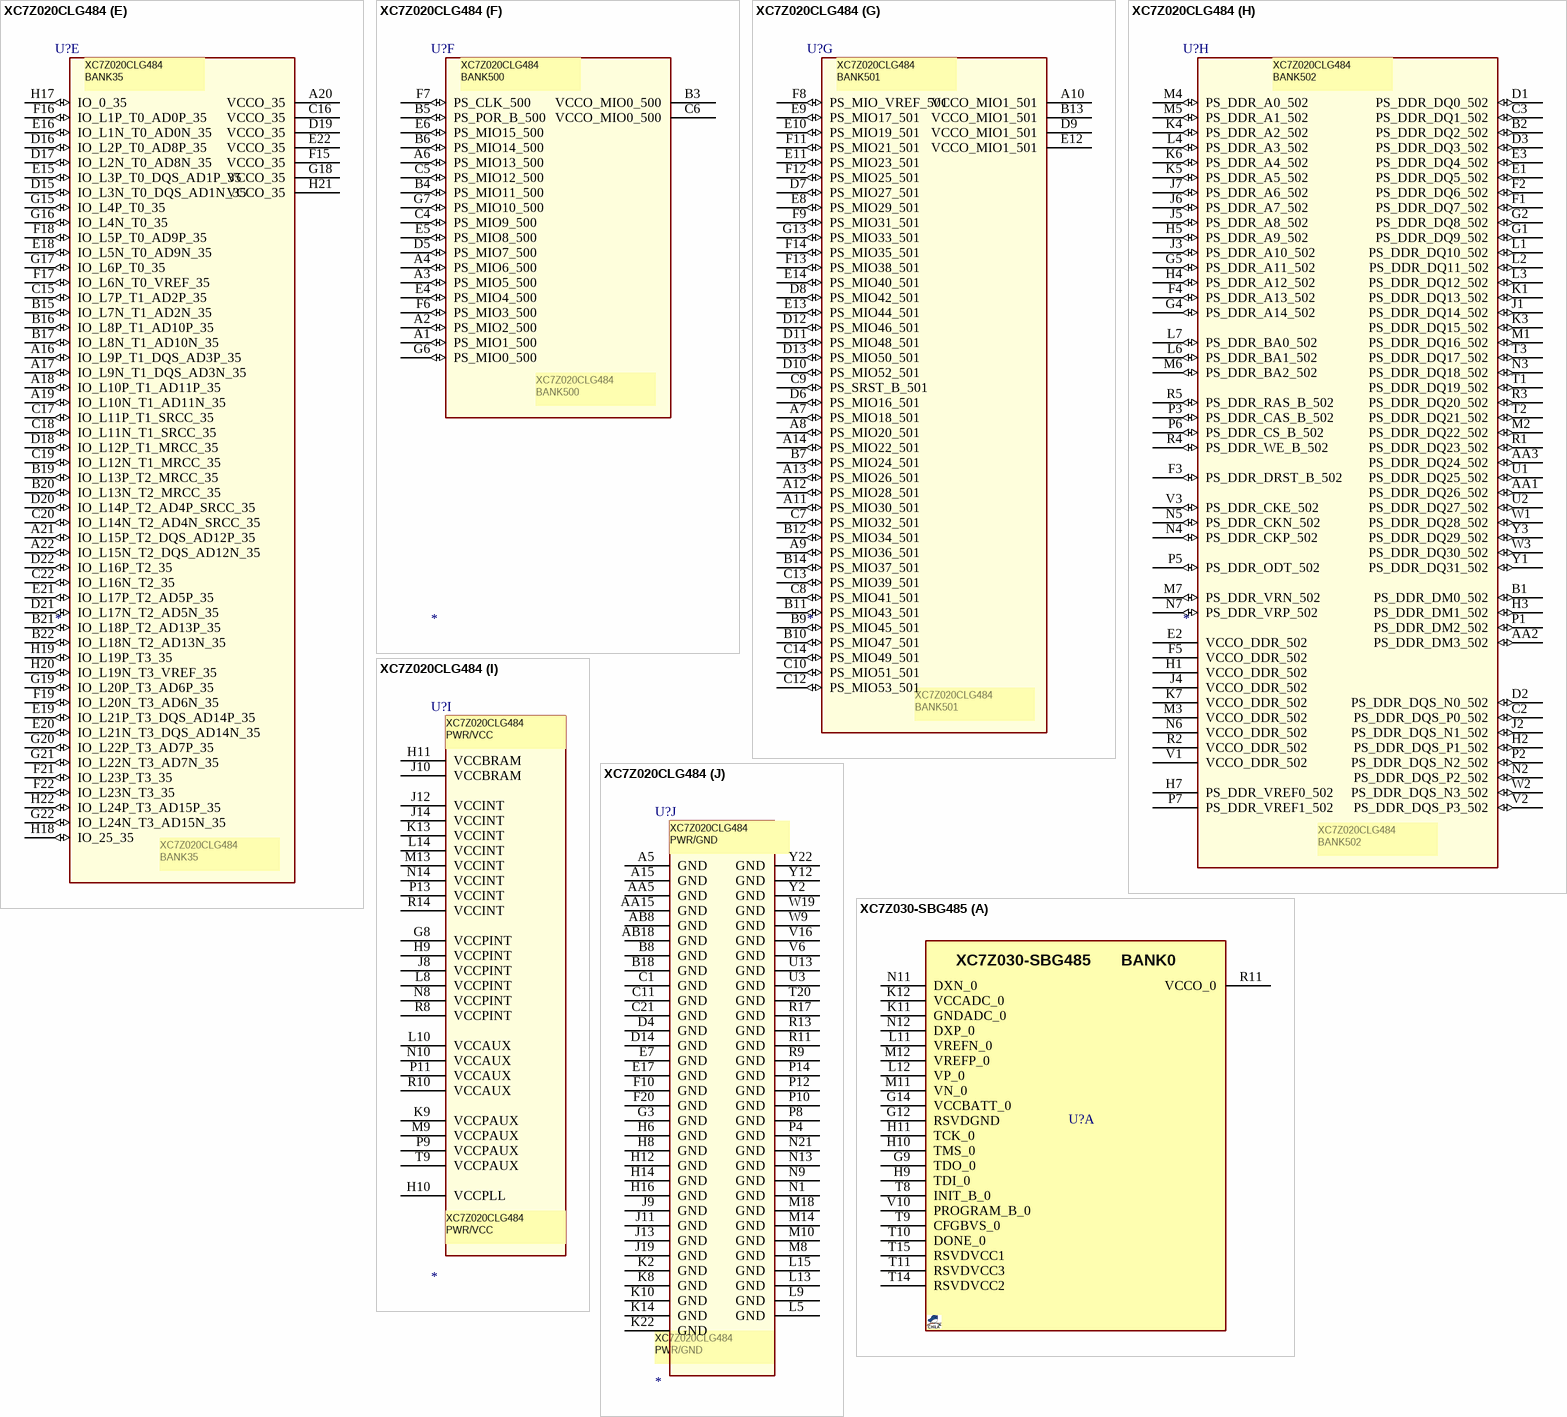
[diagram p4: symbols XC7Z020CLG484 to XC7Z030-SBG485]

## XC7Z020CLG484
designator U?
MANF: Xilinx; MANF_P#: XC7Z020CLG484A; VALUE: XC7Z020CLG484A
footprint BGA80_484_S1900
part A pins: G9 VCCBATT_0 (io), G10 RSVDGND (io), G11 TCK_0 (io), G12 TMS_0 (io), G14 TDO_0, H13 TDI_0 (io), K11 VCCADC_0 (io), K12 GNDADC_0 (io), L11 VP_0 (io), L12 VREFN_0 (io), M11 VREFP_0 (io), M12 VN_0 (io), N11 DXP_0 (io), N12 DXN_0 (io), R12 VCCO_0 (power), T7 RSVDVCC1 (io), T8 RSVDVCC2 (io), T10 RSVDVCC3 (io), T11 PROGRAM_B_0 (io), T12 DONE_0 (io), T13 CFGBVS_0 (io), T14 INIT_B_0 (io)
part B pins: AA4 IO_L18N_T2_13 (io), AA6 IO_L14N_T2_SRCC_13 (io), AA7 IO_L14P_T2_SRCC_13 (io), AA8 IO_L11N_T1_SRCC_13 (io), AA9 IO_L11P_T1_SRCC_13 (io), AA10 VCCO_13 (power), AA11 IO_L8P_T1_13 (io), AA12 IO_L7P_T1_13 (io), AB1 IO_L15N_T2_DQS_13 (io), AB2 IO_L15P_T2_DQS_13 (io), AB3 VCCO_13 (power), AB4 IO_L16N_T2_13 (io), AB5 IO_L16P_T2_13 (io), AB6 IO_L17N_T2_13 (io), AB7 IO_L17P_T2_13 (io), AB9 IO_L9N_T1_DQS_13 (io), AB10 IO_L9P_T1_DQS_13 (io), AB11 IO_L8N_T1_13 (io), AB12 IO_L7N_T1_13 (io), R6 IO_L19P_T3_13 (io), R7 IO_0_13 (io), T4 IO_L20P_T3_13 (io), T5 VCCO_13 (power), T6 IO_L19N_T3_VREF_13 (io), U4 IO_L20N_T3_13 (io), U5 IO_L22N_T3_13 (io), U6 IO_L22P_T3_13 (io), U7 IO_25_13 (io), U8 VCCO_13 (power), U9 IO_L6N_T0_VREF_13 (io), U10 IO_L6P_T0_13 (io), U11 IO_L5N_T0_13 (io), U12 IO_L5P_T0_13 (io), V4 IO_L21N_T3_DQS_13 (io), V5 IO_L21P_T3_DQS_13 (io), V7 IO_L23P_T3_13 (io), V8 IO_L2P_T0_13 (io), V9 IO_L1N_T0_13 (io), V10 IO_L1P_T0_13 (io), V11 VCCO_13 (power), V12 IO_L4P_T0_13 (io), W4 VCCO_13 (power), W5 IO_L24N_T3_13 (io), W6 IO_L24P_T3_13 (io), W7 IO_L23N_T3_13 (io), W8 IO_L2N_T0_13 (io), W10 IO_L3N_T0_DQS_13 (io), W11 IO_L3P_T0_DQS_13 (io), W12 IO_L4N_T0_13 (io), Y4 IO_L18P_T2_13 (io), Y5 IO_L13N_T2_MRCC_13 (io), Y6 IO_L13P_T2_MRCC_13 (io), Y7 VCCO_13 (power), Y8 IO_L12N_T1_MRCC_13 (io), Y9 IO_L12P_T1_MRCC_13 (io), Y10 IO_L10N_T1_13 (io), Y11 IO_L10P_T1_13 (io)
part C pins: AA13 IO_L23N_T3_33 (io), AA14 IO_L22N_T3_33 (io), AA16 IO_L18P_T2_33 (io), AA17 IO_L17P_T2_33 (io), AA18 IO_L12N_T1_MRCC_33 (io), AA19 IO_L11N_T1_SRCC_33 (io), AA20 VCCO_33 (power), AA21 IO_L8P_T1_33 (io), AA22 IO_L7P_T1_33 (io), AB13 VCCO_33 (power), AB14 IO_L24P_T3_33 (io), AB15 IO_L24N_T3_33 (io), AB16 IO_L18N_T2_33 (io), AB17 IO_L17N_T2_33 (io), AB19 IO_L10P_T1_33 (io), AB20 IO_L10N_T1_33 (io), AB21 IO_L8N_T1_33 (io), AB22 IO_L7N_T1_33 (io), T21 IO_L1P_T0_33 (io), T22 IO_L2P_T0_33 (io), U14 IO_25_33 (io), U15 IO_L15P_T2_DQS_33 (io), U16 IO_L15N_T2_DQS_33 (io), U17 IO_L16P_T2_33 (io), U18 VCCO_33 (power), U19 IO_0_33 (io), U20 IO_L5P_T0_33 (io), U21 IO_L1N_T0_33 (io), U22 IO_L2N_T0_33 (io), V13 IO_L20P_T3_33 (io), V14 IO_L19P_T3_33 (io), V15 IO_L19N_T3_VREF_33 (io), V17 IO_L16N_T2_33 (io), V18 IO_L6P_T0_33 (io), V19 IO_L6N_T0_VREF_33 (io), V20 IO_L5N_T0_33 (io), V21 VCCO_33 (power), V22 IO_L3P_T0_DQS_33 (io), W13 IO_L20N_T3_33 (io), W14 VCCO_33 (power), W15 IO_L21P_T3_DQS_33 (io), W16 IO_L14P_T2_SRCC_33 (io), W17 IO_L13P_T2_MRCC_33 (io), W18 IO_L13N_T2_MRCC_33 (io), W20 IO_L4P_T0_33 (io), W21 IO_L4N_T0_33 (io), W22 IO_L3N_T0_DQS_33 (io), Y13 IO_L23P_T3_33 (io), Y14 IO_L22P_T3_33 (io), Y15 IO_L21N_T3_DQS_33 (io), Y16 IO_L14N_T2_SRCC_33 (io), Y17 VCCO_33 (power), Y18 IO_L12P_T1_MRCC_33 (io), Y19 IO_L11P_T1_SRCC_33 (io), Y20 IO_L9P_T1_DQS_33 (io), Y21 IO_L9N_T1_DQS_33 (io)
part D pins: H15 IO_0_34 (io), J15 IO_L1P_T0_34 (io), J16 IO_L2P_T0_34 (io), J17 IO_L2N_T0_34 (io), J18 IO_L7P_T1_34 (io), J20 IO_L9P_T1_DQS_34 (io), J21 IO_L8P_T1_34 (io), J22 IO_L8N_T1_34 (io), K15 IO_L1N_T0_34 (io), K16 IO_L3P_T0_DQS_PUDC_B_34 (io), K17 VCCO_34 (power), K18 IO_L7N_T1_34 (io), K19 IO_L11P_T1_SRCC_34 (io), K20 IO_L11N_T1_SRCC_34 (io), K21 IO_L9N_T1_DQS_34 (io), L16 IO_L3N_T0_DQS_34 (io), L17 IO_L4P_T0_34 (io), L18 IO_L12P_T1_MRCC_34 (io), L19 IO_L12N_T1_MRCC_34 (io), L20 VCCO_34 (power), L21 IO_L10P_T1_34 (io), L22 IO_L10N_T1_34 (io), M15 IO_L6P_T0_34 (io), M16 IO_L6N_T0_VREF_34 (io), M17 IO_L4N_T0_34 (io), M19 IO_L13P_T2_MRCC_34 (io), M20 IO_L13N_T2_MRCC_34 (io), M21 IO_L15P_T2_DQS_34 (io), M22 IO_L15N_T2_DQS_34 (io), N15 IO_L19P_T3_34 (io), N16 VCCO_34 (power), N17 IO_L5P_T0_34 (io), N18 IO_L5N_T0_34 (io), N19 IO_L14P_T2_SRCC_34 (io), N20 IO_L14N_T2_SRCC_34 (io), N22 IO_L16P_T2_34 (io), P15 IO_L19N_T3_VREF_34 (io), P16 IO_L24P_T3_34 (io), P17 IO_L20P_T3_34 (io), P18 IO_L20N_T3_34 (io), P19 VCCO_34 (power), P20 IO_L18P_T2_34 (io), P21 IO_L18N_T2_34 (io), P22 IO_L16N_T2_34 (io), R15 IO_25_34 (io), R16 IO_L24N_T3_34 (io), R18 IO_L23P_T3_34 (io), R19 IO_L22P_T3_34 (io), R20 IO_L17P_T2_34 (io), R21 IO_L17N_T2_34 (io), R22 VCCO_34 (power), T15 VCCO_34 (power), T16 IO_L21P_T3_DQS_34 (io), T17 IO_L21N_T3_DQS_34 (io), T18 IO_L23N_T3_34 (io), T19 IO_L22N_T3_34 (io)
part E pins: A16 IO_L9P_T1_DQS_AD3P_35 (io), A17 IO_L9N_T1_DQS_AD3N_35 (io), A18 IO_L10P_T1_AD11P_35 (io), A19 IO_L10N_T1_AD11N_35 (io), A20 VCCO_35 (power), A21 IO_L15P_T2_DQS_AD12P_35 (io), A22 IO_L15N_T2_DQS_AD12N_35 (io), B15 IO_L7N_T1_AD2N_35 (io), B16 IO_L8P_T1_AD10P_35 (io), B17 IO_L8N_T1_AD10N_35 (io), B19 IO_L13P_T2_MRCC_35 (io), B20 IO_L13N_T2_MRCC_35 (io), B21 IO_L18P_T2_AD13P_35 (io), B22 IO_L18N_T2_AD13N_35 (io), C15 IO_L7P_T1_AD2P_35 (io), C16 VCCO_35 (power), C17 IO_L11P_T1_SRCC_35 (io), C18 IO_L11N_T1_SRCC_35 (io), C19 IO_L12N_T1_MRCC_35 (io), C20 IO_L14N_T2_AD4N_SRCC_35 (io), C22 IO_L16N_T2_35 (io), D15 IO_L3N_T0_DQS_AD1N_35 (io), D16 IO_L2P_T0_AD8P_35 (io), D17 IO_L2N_T0_AD8N_35 (io), D18 IO_L12P_T1_MRCC_35 (io), D19 VCCO_35 (power), D20 IO_L14P_T2_AD4P_SRCC_35 (io), D21 IO_L17N_T2_AD5N_35 (io), D22 IO_L16P_T2_35 (io), E15 IO_L3P_T0_DQS_AD1P_35 (io), E16 IO_L1N_T0_AD0N_35 (io), E18 IO_L5N_T0_AD9N_35 (io), E19 IO_L21P_T3_DQS_AD14P_35 (io), E20 IO_L21N_T3_DQS_AD14N_35 (io), E21 IO_L17P_T2_AD5P_35 (io), E22 VCCO_35 (power), F15 VCCO_35 (power), F16 IO_L1P_T0_AD0P_35 (io), F17 IO_L6N_T0_VREF_35 (io), F18 IO_L5P_T0_AD9P_35 (io), F19 IO_L20N_T3_AD6N_35 (io), F21 IO_L23P_T3_35 (io), F22 IO_L23N_T3_35 (io), G15 IO_L4P_T0_35 (io), G16 IO_L4N_T0_35 (io), G17 IO_L6P_T0_35 (io), G18 VCCO_35 (power), G19 IO_L20P_T3_AD6P_35 (io), G20 IO_L22P_T3_AD7P_35 (io), G21 IO_L22N_T3_AD7N_35 (io), G22 IO_L24N_T3_AD15N_35 (io), H17 IO_0_35 (io), H18 IO_25_35 (io), H19 IO_L19P_T3_35 (io), H20 IO_L19N_T3_VREF_35 (io), H21 VCCO_35 (power), H22 IO_L24P_T3_AD15P_35 (io)
part F pins: A1 PS_MIO1_500 (io), A2 PS_MIO2_500 (io), A3 PS_MIO5_500 (io), A4 PS_MIO6_500 (io), A6 PS_MIO13_500 (io), B3 VCCO_MIO0_500 (power), B4 PS_MIO11_500 (io), B5 PS_POR_B_500 (io), B6 PS_MIO14_500 (io), C4 PS_MIO9_500 (io), C5 PS_MIO12_500 (io), C6 VCCO_MIO0_500 (power), D5 PS_MIO7_500 (io), E4 PS_MIO4_500 (io), E5 PS_MIO8_500 (io), E6 PS_MIO15_500 (io), F6 PS_MIO3_500 (io), F7 PS_CLK_500 (io), G6 PS_MIO0_500 (io), G7 PS_MIO10_500 (io)
part G pins: A7 PS_MIO18_501 (io), A8 PS_MIO20_501 (io), A9 PS_MIO36_501 (io), A10 VCCO_MIO1_501 (power), A11 PS_MIO30_501 (io), A12 PS_MIO28_501 (io), A13 PS_MIO26_501 (io), A14 PS_MIO22_501 (io), B7 PS_MIO24_501 (io), B9 PS_MIO45_501 (io), B10 PS_MIO47_501 (io), B11 PS_MIO43_501 (io), B12 PS_MIO34_501 (io), B13 VCCO_MIO1_501 (power), B14 PS_MIO37_501 (io), C7 PS_MIO32_501 (io), C8 PS_MIO41_501 (io), C9 PS_SRST_B_501 (io), C10 PS_MIO51_501 (io), C12 PS_MIO53_501 (io), C13 PS_MIO39_501 (io), C14 PS_MIO49_501 (io), D6 PS_MIO16_501 (io), D7 PS_MIO27_501 (io), D8 PS_MIO42_501 (io), D9 VCCO_MIO1_501 (power), D10 PS_MIO52_501 (io), D11 PS_MIO48_501 (io), D12 PS_MIO46_501 (io), D13 PS_MIO50_501 (io), E8 PS_MIO29_501 (io), E9 PS_MIO17_501 (io), E10 PS_MIO19_501 (io), E11 PS_MIO23_501 (io), E12 VCCO_MIO1_501 (power), E13 PS_MIO44_501 (io), E14 PS_MIO40_501 (io), F8 PS_MIO_VREF_501 (io), F9 PS_MIO31_501 (io), F11 PS_MIO21_501 (io), F12 PS_MIO25_501 (io), F13 PS_MIO38_501 (io), F14 PS_MIO35_501 (io), G13 PS_MIO33_501 (io)
part H pins: AA1 PS_DDR_DQ26_502 (io), AA2 PS_DDR_DM3_502 (io), AA3 PS_DDR_DQ24_502 (io), B1 PS_DDR_DM0_502 (io), B2 PS_DDR_DQ2_502 (io), C2 PS_DDR_DQS_P0_502 (io), C3 PS_DDR_DQ1_502 (io), D1 PS_DDR_DQ0_502 (io), D2 PS_DDR_DQS_N0_502 (io), D3 PS_DDR_DQ3_502 (io), E1 PS_DDR_DQ5_502 (io), E2 VCCO_DDR_502 (power), E3 PS_DDR_DQ4_502 (io), F1 PS_DDR_DQ7_502 (io), F2 PS_DDR_DQ6_502 (io), F3 PS_DDR_DRST_B_502 (io), F4 PS_DDR_A13_502 (io), F5 VCCO_DDR_502 (power), G1 PS_DDR_DQ9_502 (io), G2 PS_DDR_DQ8_502 (io), G4 PS_DDR_A14_502 (io), G5 PS_DDR_A11_502 (io), H1 VCCO_DDR_502 (power), H2 PS_DDR_DQS_P1_502 (io), H3 PS_DDR_DM1_502 (io), H4 PS_DDR_A12_502 (io), H5 PS_DDR_A9_502 (io), H7 PS_DDR_VREF0_502 (power), J1 PS_DDR_DQ14_502 (io), J2 PS_DDR_DQS_N1_502 (io), J3 PS_DDR_A10_502 (io), J4 VCCO_DDR_502 (power), J5 PS_DDR_A8_502 (io), J6 PS_DDR_A7_502 (io), J7 PS_DDR_A6_502 (io), K1 PS_DDR_DQ13_502 (io), K3 PS_DDR_DQ15_502 (io), K4 PS_DDR_A2_502 (io), K5 PS_DDR_A5_502 (io), K6 PS_DDR_A4_502 (io), K7 VCCO_DDR_502 (power), L1 PS_DDR_DQ10_502 (io), L2 PS_DDR_DQ11_502 (io), L3 PS_DDR_DQ12_502 (io), L4 PS_DDR_A3_502 (io), L6 PS_DDR_BA1_502 (io), L7 PS_DDR_BA0_502 (io), M1 PS_DDR_DQ16_502 (io), M2 PS_DDR_DQ22_502 (io), M3 VCCO_DDR_502 (power), M4 PS_DDR_A0_502 (io), M5 PS_DDR_A1_502 (io), M6 PS_DDR_BA2_502 (io), M7 PS_DDR_VRN_502 (io), N2 PS_DDR_DQS_P2_502 (io), N3 PS_DDR_DQ18_502 (io), N4 PS_DDR_CKP_502 (io), N5 PS_DDR_CKN_502 (io), N6 VCCO_DDR_502 (power), N7 PS_DDR_VRP_502 (io), P1 PS_DDR_DM2_502 (io), P2 PS_DDR_DQS_N2_502 (io), P3 PS_DDR_CAS_B_502 (io), P5 PS_DDR_ODT_502 (io), P6 PS_DDR_CS_B_502 (io), P7 PS_DDR_VREF1_502 (power), R1 PS_DDR_DQ23_502 (io), R2 VCCO_DDR_502 (power), R3 PS_DDR_DQ20_502 (io), R4 PS_DDR_WE_B_502 (io), R5 PS_DDR_RAS_B_502 (io), T1 PS_DDR_DQ19_502 (io), T2 PS_DDR_DQ21_502 (io), T3 PS_DDR_DQ17_502 (io), U1 PS_DDR_DQ25_502 (io), U2 PS_DDR_DQ27_502 (io), V1 VCCO_DDR_502 (power), V2 PS_DDR_DQS_P3_502 (io), V3 PS_DDR_CKE_502 (io), W1 PS_DDR_DQ28_502 (io), W2 PS_DDR_DQS_N3_502 (io), W3 PS_DDR_DQ30_502 (io), Y1 PS_DDR_DQ31_502 (io), Y3 PS_DDR_DQ29_502 (io)
part I pins: G8 VCCPINT (power), H9 VCCPINT (power), H10 VCCPLL (power), H11 VCCBRAM (power), J8 VCCPINT (power), J10 VCCBRAM (power), J12 VCCINT (power), J14 VCCINT (power), K9 VCCPAUX (power), K13 VCCINT (power), L8 VCCPINT (power), L10 VCCAUX (power), L14 VCCINT (power), M9 VCCPAUX (power), M13 VCCINT (power), N8 VCCPINT (power), N10 VCCAUX (power), N14 VCCINT (power), P9 VCCPAUX (power), P11 VCCAUX (power), P13 VCCINT (power), R8 VCCPINT (power), R10 VCCAUX (power), R14 VCCINT (power), T9 VCCPAUX (power)
part J pins: A5 GND (power), A15 GND (power), AA5 GND (power), AA15 GND (power), AB8 GND (power), AB18 GND (power), B8 GND (power), B18 GND (power), C1 GND (power), C11 GND (power), C21 GND (power), D4 GND (power), D14 GND (power), E7 GND (power), E17 GND (power), F10 GND (power), F20 GND (power), G3 GND (power), H6 GND (power), H8 GND (power), H12 GND (power), H14 GND (power), H16 GND (power), J9 GND (power), J11 GND (power), J13 GND (power), J19 GND (power), K2 GND (power), K8 GND (power), K10 GND (power), K14 GND (power), K22 GND (power), L5 GND (power), L9 GND (power), L13 GND (power), L15 GND (power), M8 GND (power), M10 GND (power), M14 GND (power), M18 GND (power), N1 GND (power), N9 GND (power), N13 GND (power), N21 GND (power), P4 GND (power), P8 GND (power), P10 GND (power), P12 GND (power), P14 GND (power), R9 GND (power), R11 GND (power), R13 GND (power), R17 GND (power), T20 GND (power), U3 GND (power), U13 GND (power), V6 GND (power), V16 GND (power), W9 GND (power), W19 GND (power), Y2 GND (power), Y12 GND (power), Y22 GND (power)
part A text: XC7Z020CLG484 / BANK0
part B text: XC7Z020CLG484 / BANK13
part C text: XC7Z020CLG484 / BANK33
part D text: XC7Z020CLG484 / BANK34
part E text: XC7Z020CLG484 / BANK35
part F text: XC7Z020CLG484 / BANK500
part G text: XC7Z020CLG484 / BANK501
part H text: XC7Z020CLG484 / BANK502
part I text: XC7Z020CLG484 / PWR/VCC
part J text: XC7Z020CLG484 / PWR/GND

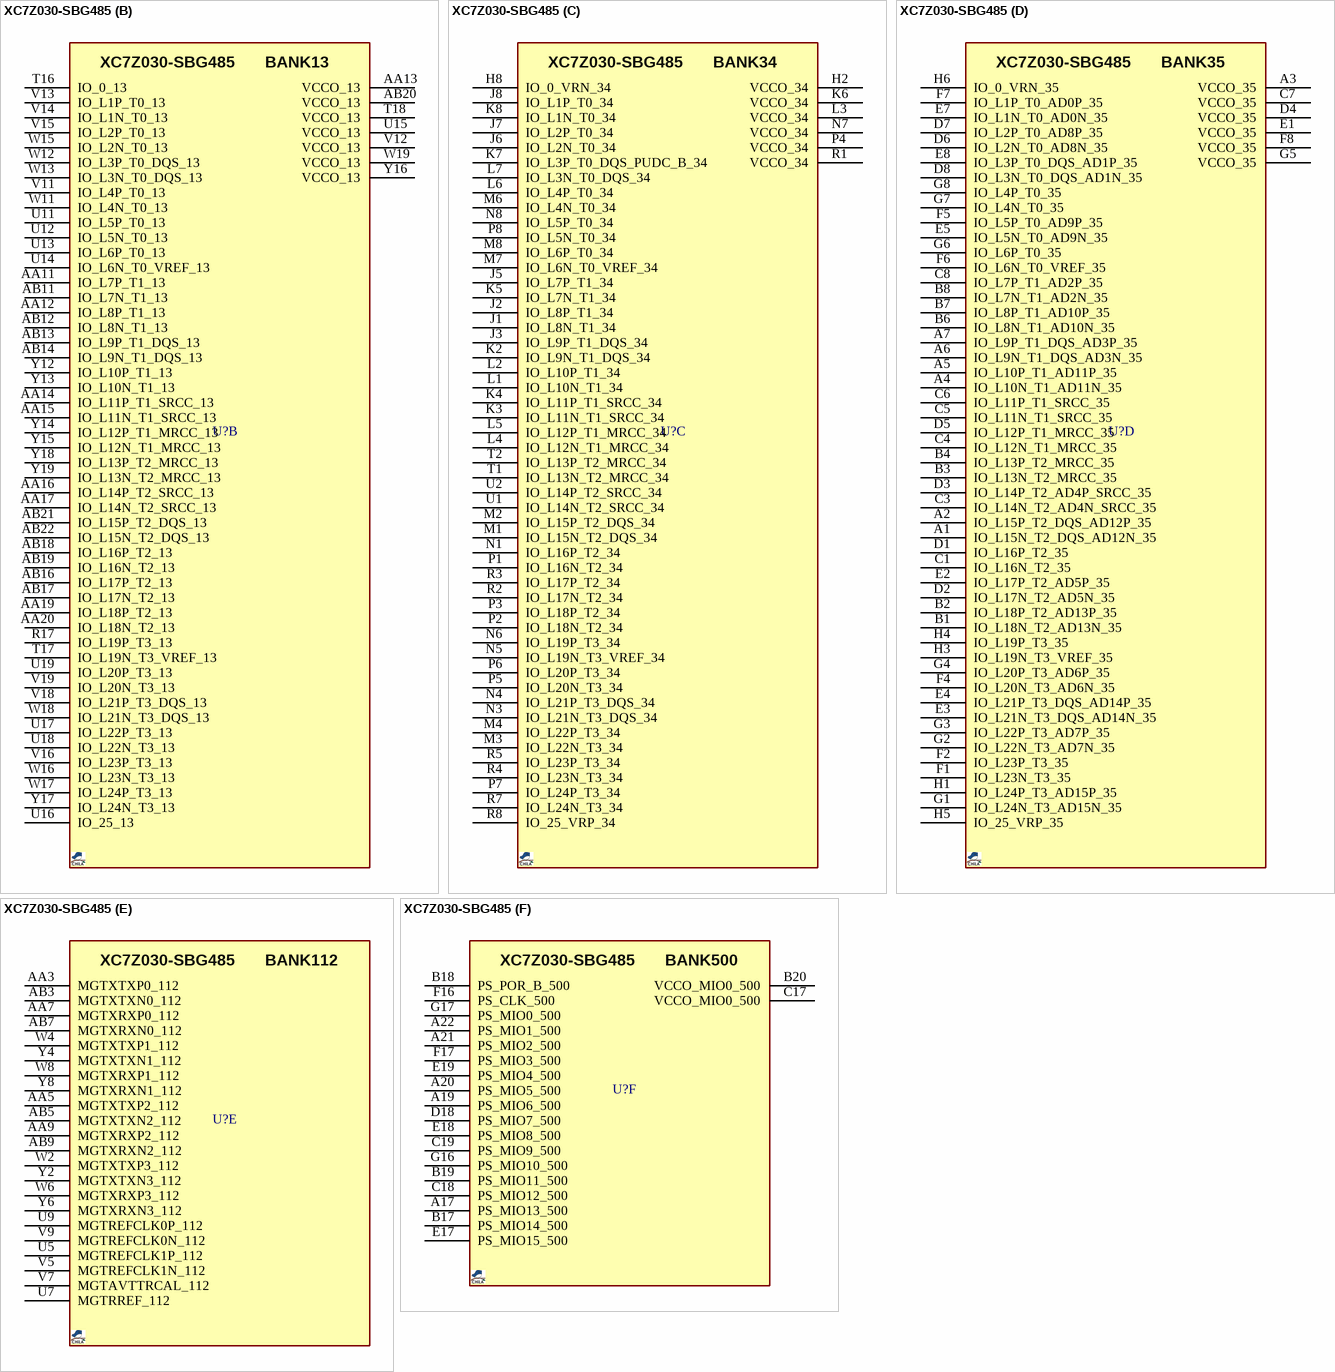
[diagram p5: symbol XC7Z030-SBG485]

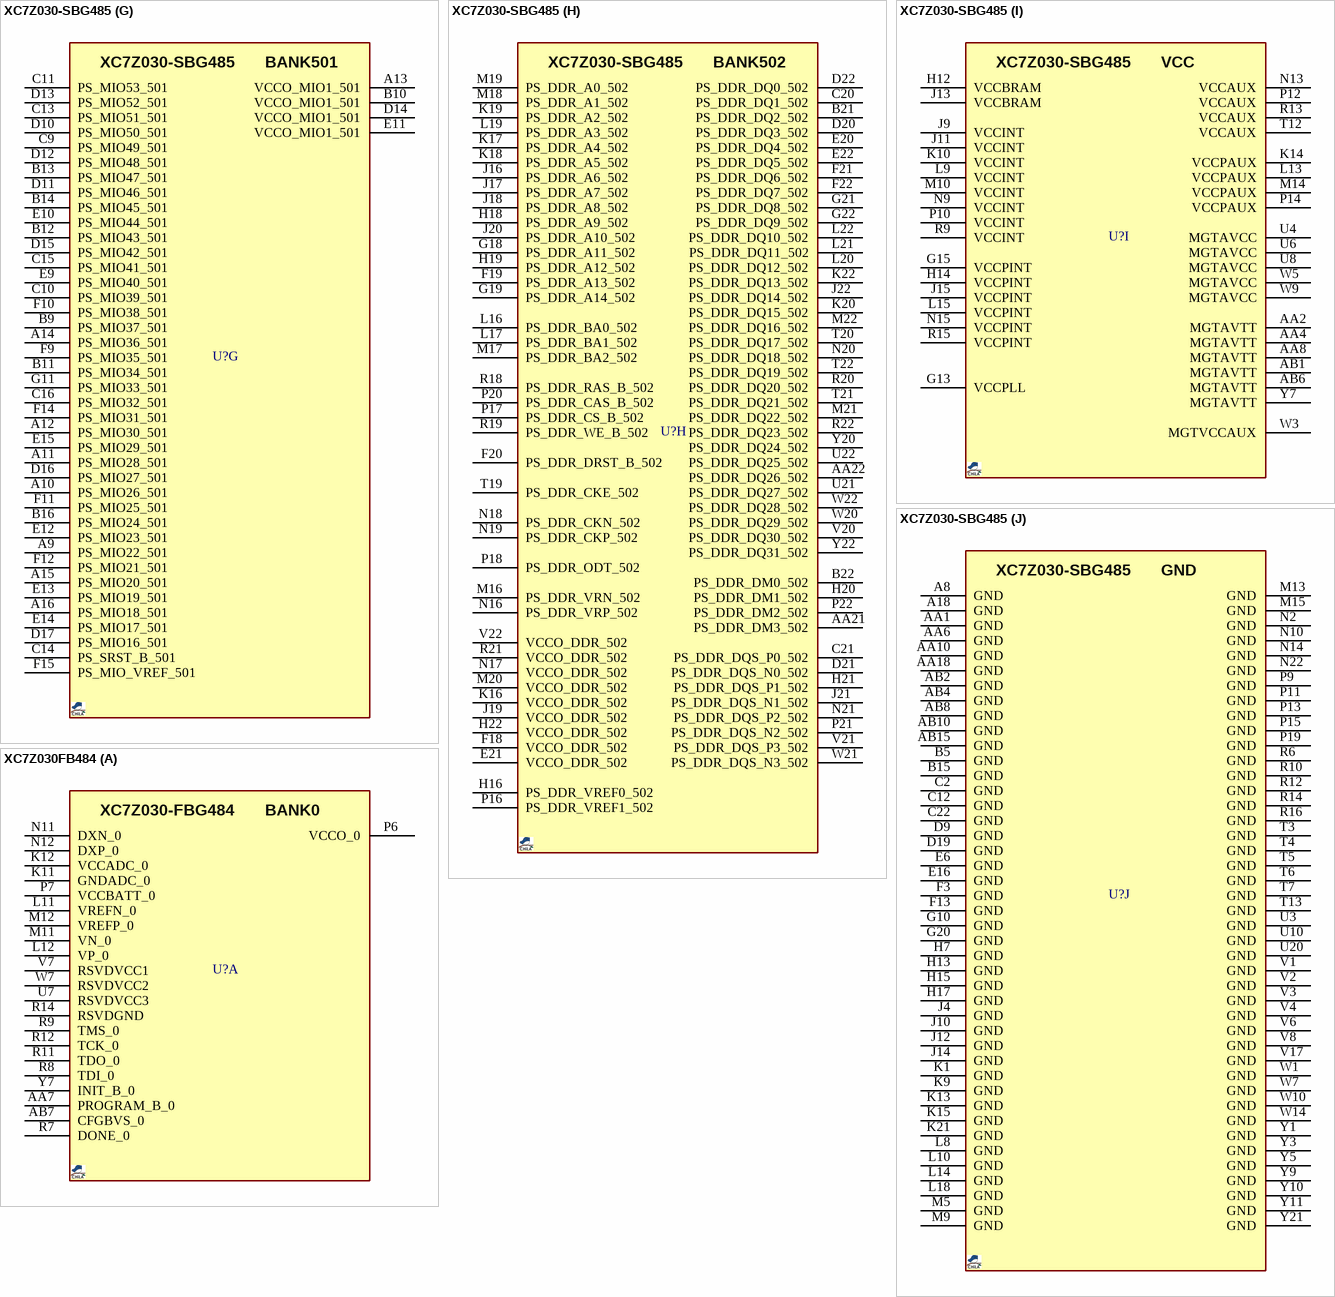
[diagram p6: symbols XC7Z030-SBG485 to XC7Z030FB484]

## XC7Z030-SBG485
designator U?  (value not drawn)
SoC Zynq 7030, Kintex-7 FPGA 125K Logic Cells, Dual ARM Cortex-A9 800MHz; MANF: XILINX; MANF_P#: XC7Z030-L2SBG485I; VALUE: XC7Z030-SBG485
footprint SBG485 (Footprint not found)
part A pins: G9 TDO_0, G12 RSVDGND, G14 VCCBATT_0, H9 TDI_0, H10 TMS_0, H11 TCK_0, K11 GNDADC_0, K12 VCCADC_0, L11 VREFN_0, L12 VP_0, M11 VN_0, M12 VREFP_0, N11 DXN_0, N12 DXP_0, R11 VCCO_0, T8 INIT_B_0, T9 CFGBVS_0, T10 DONE_0, T11 RSVDVCC3, T14 RSVDVCC2, T15 RSVDVCC1, V10 PROGRAM_B_0
part B pins: AA11 IO_L7P_T1_13, AA12 IO_L8P_T1_13, AA13 VCCO_13, AA14 IO_L11P_T1_SRCC_13, AA15 IO_L11N_T1_SRCC_13, AA16 IO_L14P_T2_SRCC_13, AA17 IO_L14N_T2_SRCC_13, AA19 IO_L18P_T2_13, AA20 IO_L18N_T2_13, AB11 IO_L7N_T1_13, AB12 IO_L8N_T1_13, AB13 IO_L9P_T1_DQS_13, AB14 IO_L9N_T1_DQS_13, AB16 IO_L17P_T2_13, AB17 IO_L17N_T2_13, AB18 IO_L16P_T2_13, AB19 IO_L16N_T2_13, AB20 VCCO_13, AB21 IO_L15P_T2_DQS_13, AB22 IO_L15N_T2_DQS_13, R17 IO_L19P_T3_13, T16 IO_0_13, T17 IO_L19N_T3_VREF_13, T18 VCCO_13, U11 IO_L5P_T0_13, U12 IO_L5N_T0_13, U13 IO_L6P_T0_13, U14 IO_L6N_T0_VREF_13, U15 VCCO_13, U16 IO_25_13, U17 IO_L22P_T3_13, U18 IO_L22N_T3_13, U19 IO_L20P_T3_13, V11 IO_L4P_T0_13, V12 VCCO_13, V13 IO_L1P_T0_13, V14 IO_L1N_T0_13, V15 IO_L2P_T0_13, V16 IO_L23P_T3_13, V18 IO_L21P_T3_DQS_13, V19 IO_L20N_T3_13, W11 IO_L4N_T0_13, W12 IO_L3P_T0_DQS_13, W13 IO_L3N_T0_DQS_13, W15 IO_L2N_T0_13, W16 IO_L23N_T3_13, W17 IO_L24P_T3_13, W18 IO_L21N_T3_DQS_13, W19 VCCO_13, Y12 IO_L10P_T1_13, Y13 IO_L10N_T1_13, Y14 IO_L12P_T1_MRCC_13, Y15 IO_L12N_T1_MRCC_13, Y16 VCCO_13, Y17 IO_L24N_T3_13, Y18 IO_L13P_T2_MRCC_13, Y19 IO_L13N_T2_MRCC_13
part C pins: H2 VCCO_34, H8 IO_0_VRN_34, J1 IO_L8N_T1_34, J2 IO_L8P_T1_34, J3 IO_L9P_T1_DQS_34, J5 IO_L7P_T1_34, J6 IO_L2N_T0_34, J7 IO_L2P_T0_34, J8 IO_L1P_T0_34, K2 IO_L9N_T1_DQS_34, K3 IO_L11N_T1_SRCC_34, K4 IO_L11P_T1_SRCC_34, K5 IO_L7N_T1_34, K6 VCCO_34, K7 IO_L3P_T0_DQS_PUDC_B_34, K8 IO_L1N_T0_34, L1 IO_L10N_T1_34, L2 IO_L10P_T1_34, L3 VCCO_34, L4 IO_L12N_T1_MRCC_34, L5 IO_L12P_T1_MRCC_34, L6 IO_L4P_T0_34, L7 IO_L3N_T0_DQS_34, M1 IO_L15N_T2_DQS_34, M2 IO_L15P_T2_DQS_34, M3 IO_L22N_T3_34, M4 IO_L22P_T3_34, M6 IO_L4N_T0_34, M7 IO_L6N_T0_VREF_34, M8 IO_L6P_T0_34, N1 IO_L16P_T2_34, N3 IO_L21N_T3_DQS_34, N4 IO_L21P_T3_DQS_34, N5 IO_L19N_T3_VREF_34, N6 IO_L19P_T3_34, N7 VCCO_34, N8 IO_L5P_T0_34, P1 IO_L16N_T2_34, P2 IO_L18N_T2_34, P3 IO_L18P_T2_34, P4 VCCO_34, P5 IO_L20N_T3_34, P6 IO_L20P_T3_34, P7 IO_L24P_T3_34, P8 IO_L5N_T0_34, R1 VCCO_34, R2 IO_L17N_T2_34, R3 IO_L17P_T2_34, R4 IO_L23N_T3_34, R5 IO_L23P_T3_34, R7 IO_L24N_T3_34, R8 IO_25_VRP_34, T1 IO_L13N_T2_MRCC_34, T2 IO_L13P_T2_MRCC_34, U1 IO_L14N_T2_SRCC_34, U2 IO_L14P_T2_SRCC_34
part D pins: A1 IO_L15N_T2_DQS_AD12N_35, A2 IO_L15P_T2_DQS_AD12P_35, A3 VCCO_35, A4 IO_L10N_T1_AD11N_35, A5 IO_L10P_T1_AD11P_35, A6 IO_L9N_T1_DQS_AD3N_35, A7 IO_L9P_T1_DQS_AD3P_35, B1 IO_L18N_T2_AD13N_35, B2 IO_L18P_T2_AD13P_35, B3 IO_L13N_T2_MRCC_35, B4 IO_L13P_T2_MRCC_35, B6 IO_L8N_T1_AD10N_35, B7 IO_L8P_T1_AD10P_35, B8 IO_L7N_T1_AD2N_35, C1 IO_L16N_T2_35, C3 IO_L14N_T2_AD4N_SRCC_35, C4 IO_L12N_T1_MRCC_35, C5 IO_L11N_T1_SRCC_35, C6 IO_L11P_T1_SRCC_35, C7 VCCO_35, C8 IO_L7P_T1_AD2P_35, D1 IO_L16P_T2_35, D2 IO_L17N_T2_AD5N_35, D3 IO_L14P_T2_AD4P_SRCC_35, D4 VCCO_35, D5 IO_L12P_T1_MRCC_35, D6 IO_L2N_T0_AD8N_35, D7 IO_L2P_T0_AD8P_35, D8 IO_L3N_T0_DQS_AD1N_35, E1 VCCO_35, E2 IO_L17P_T2_AD5P_35, E3 IO_L21N_T3_DQS_AD14N_35, E4 IO_L21P_T3_DQS_AD14P_35, E5 IO_L5N_T0_AD9N_35, E7 IO_L1N_T0_AD0N_35, E8 IO_L3P_T0_DQS_AD1P_35, F1 IO_L23N_T3_35, F2 IO_L23P_T3_35, F4 IO_L20N_T3_AD6N_35, F5 IO_L5P_T0_AD9P_35, F6 IO_L6N_T0_VREF_35, F7 IO_L1P_T0_AD0P_35, F8 VCCO_35, G1 IO_L24N_T3_AD15N_35, G2 IO_L22N_T3_AD7N_35, G3 IO_L22P_T3_AD7P_35, G4 IO_L20P_T3_AD6P_35, G5 VCCO_35, G6 IO_L6P_T0_35, G7 IO_L4N_T0_35, G8 IO_L4P_T0_35, H1 IO_L24P_T3_AD15P_35, H3 IO_L19N_T3_VREF_35, H4 IO_L19P_T3_35, H5 IO_25_VRP_35, H6 IO_0_VRN_35
part E pins: AA3 MGTXTXP0_112, AA5 MGTXTXP2_112, AA7 MGTXRXP0_112, AA9 MGTXRXP2_112, AB3 MGTXTXN0_112, AB5 MGTXTXN2_112, AB7 MGTXRXN0_112, AB9 MGTXRXN2_112, U5 MGTREFCLK1P_112, U7 MGTRREF_112, U9 MGTREFCLK0P_112, V5 MGTREFCLK1N_112, V7 MGTAVTTRCAL_112, V9 MGTREFCLK0N_112, W2 MGTXTXP3_112, W4 MGTXTXP1_112, W6 MGTXRXP3_112, W8 MGTXRXP1_112, Y2 MGTXTXN3_112, Y4 MGTXTXN1_112, Y6 MGTXRXN3_112, Y8 MGTXRXN1_112
part F pins: A17 PS_MIO13_500, A19 PS_MIO6_500, A20 PS_MIO5_500, A21 PS_MIO2_500, A22 PS_MIO1_500, B17 PS_MIO14_500, B18 PS_POR_B_500, B19 PS_MIO11_500, B20 VCCO_MIO0_500, C17 VCCO_MIO0_500, C18 PS_MIO12_500, C19 PS_MIO9_500, D18 PS_MIO7_500, E17 PS_MIO15_500, E18 PS_MIO8_500, E19 PS_MIO4_500, F16 PS_CLK_500, F17 PS_MIO3_500, G16 PS_MIO10_500, G17 PS_MIO0_500
part G pins: A9 PS_MIO22_501, A10 PS_MIO26_501, A11 PS_MIO28_501, A12 PS_MIO30_501, A13 VCCO_MIO1_501, A14 PS_MIO36_501, A15 PS_MIO20_501, A16 PS_MIO18_501, B9 PS_MIO37_501, B10 VCCO_MIO1_501, B11 PS_MIO34_501, B12 PS_MIO43_501, B13 PS_MIO47_501, B14 PS_MIO45_501, B16 PS_MIO24_501, C9 PS_MIO49_501, C10 PS_MIO39_501, C11 PS_MIO53_501, C13 PS_MIO51_501, C14 PS_SRST_B_501, C15 PS_MIO41_501, C16 PS_MIO32_501, D10 PS_MIO50_501, D11 PS_MIO46_501, D12 PS_MIO48_501, D13 PS_MIO52_501, D14 VCCO_MIO1_501, D15 PS_MIO42_501, D16 PS_MIO27_501, D17 PS_MIO16_501, E9 PS_MIO40_501, E10 PS_MIO44_501, E11 VCCO_MIO1_501, E12 PS_MIO23_501, E13 PS_MIO19_501, E14 PS_MIO17_501, E15 PS_MIO29_501, F9 PS_MIO35_501, F10 PS_MIO38_501, F11 PS_MIO25_501, F12 PS_MIO21_501, F14 PS_MIO31_501, F15 PS_MIO_VREF_501, G11 PS_MIO33_501
part H pins: AA21 PS_DDR_DM3_502, AA22 PS_DDR_DQ26_502, B21 PS_DDR_DQ2_502, B22 PS_DDR_DM0_502, C20 PS_DDR_DQ1_502, C21 PS_DDR_DQS_P0_502, D20 PS_DDR_DQ3_502, D21 PS_DDR_DQS_N0_502, D22 PS_DDR_DQ0_502, E20 PS_DDR_DQ4_502, E21 VCCO_DDR_502, E22 PS_DDR_DQ5_502, F18 VCCO_DDR_502, F19 PS_DDR_A13_502, F20 PS_DDR_DRST_B_502, F21 PS_DDR_DQ6_502, F22 PS_DDR_DQ7_502, G18 PS_DDR_A11_502, G19 PS_DDR_A14_502, G21 PS_DDR_DQ8_502, G22 PS_DDR_DQ9_502, H16 PS_DDR_VREF0_502, H18 PS_DDR_A9_502, H19 PS_DDR_A12_502, H20 PS_DDR_DM1_502, H21 PS_DDR_DQS_P1_502, H22 VCCO_DDR_502, J16 PS_DDR_A6_502, J17 PS_DDR_A7_502, J18 PS_DDR_A8_502, J19 VCCO_DDR_502, J20 PS_DDR_A10_502, J21 PS_DDR_DQS_N1_502, J22 PS_DDR_DQ14_502, K16 VCCO_DDR_502, K17 PS_DDR_A4_502, K18 PS_DDR_A5_502, K19 PS_DDR_A2_502, K20 PS_DDR_DQ15_502, K22 PS_DDR_DQ13_502, L16 PS_DDR_BA0_502, L17 PS_DDR_BA1_502, L19 PS_DDR_A3_502, L20 PS_DDR_DQ12_502, L21 PS_DDR_DQ11_502, L22 PS_DDR_DQ10_502, M16 PS_DDR_VRN_502, M17 PS_DDR_BA2_502, M18 PS_DDR_A1_502, M19 PS_DDR_A0_502, M20 VCCO_DDR_502, M21 PS_DDR_DQ22_502, M22 PS_DDR_DQ16_502, N16 PS_DDR_VRP_502, N17 VCCO_DDR_502, N18 PS_DDR_CKN_502, N19 PS_DDR_CKP_502, N20 PS_DDR_DQ18_502, N21 PS_DDR_DQS_P2_502, P16 PS_DDR_VREF1_502, P17 PS_DDR_CS_B_502, P18 PS_DDR_ODT_502, P20 PS_DDR_CAS_B_502, P21 PS_DDR_DQS_N2_502, P22 PS_DDR_DM2_502, R18 PS_DDR_RAS_B_502, R19 PS_DDR_WE_B_502, R20 PS_DDR_DQ20_502, R21 VCCO_DDR_502, R22 PS_DDR_DQ23_502, T19 PS_DDR_CKE_502, T20 PS_DDR_DQ17_502, T21 PS_DDR_DQ21_502, T22 PS_DDR_DQ19_502, U21 PS_DDR_DQ27_502, U22 PS_DDR_DQ25_502, V20 PS_DDR_DQ30_502, V21 PS_DDR_DQS_P3_502, V22 VCCO_DDR_502, W20 PS_DDR_DQ29_502, W21 PS_DDR_DQS_N3_502, W22 PS_DDR_DQ28_502, Y20 PS_DDR_DQ24_502, Y22 PS_DDR_DQ31_502
part I pins: AA2 MGTAVTT, AA4 MGTAVTT, AA8 MGTAVTT, AB1 MGTAVTT, AB6 MGTAVTT, G13 VCCPLL, G15 VCCPINT, H12 VCCBRAM, H14 VCCPINT, J9 VCCINT, J11 VCCINT, J13 VCCBRAM, J15 VCCPINT, K10 VCCINT, K14 VCCPAUX, L9 VCCINT, L13 VCCPAUX, L15 VCCPINT, M10 VCCINT, M14 VCCPAUX, N9 VCCINT, N13 VCCAUX, N15 VCCPINT, P10 VCCINT, P12 VCCAUX, P14 VCCPAUX, R9 VCCINT, R13 VCCAUX, R15 VCCPINT, T12 VCCAUX, U4 MGTAVCC, U6 MGTAVCC, U8 MGTAVCC, W3 MGTVCCAUX, W5 MGTAVCC, W9 MGTAVCC, Y7 MGTAVTT
part J pins: A8 GND, A18 GND, AA1 GND, AA6 GND, AA10 GND, AA18 GND, AB2 GND, AB4 GND, AB8 GND, AB10 GND, AB15 GND, B5 GND, B15 GND, C2 GND, C12 GND, C22 GND, D9 GND, D19 GND, E6 GND, E16 GND, F3 GND, F13 GND, G10 GND, G20 GND, H7 GND, H13 GND, H15 GND, H17 GND, J4 GND, J10 GND, J12 GND, J14 GND, K1 GND, K9 GND, K13 GND, K15 GND, K21 GND, L8 GND, L10 GND, L14 GND, L18 GND, M5 GND, M9 GND, M13 GND, M15 GND, N2 GND, N10 GND, N14 GND, N22 GND, P9 GND, P11 GND, P13 GND, P15 GND, P19 GND, R6 GND, R10 GND, R12 GND, R14 GND, R16 GND, T3 GND, T4 GND, T5 GND, T6 GND, T7 GND, T13 GND, U3 GND, U10 GND, U20 GND, V1 GND, V2 GND, V3 GND, V4 GND, V6 GND, V8 GND, V17 GND, W1 GND, W7 GND, W10 GND, W14 GND, Y1 GND, Y3 GND, Y5 GND, Y9 GND, Y10 GND, Y11 GND, Y21 GND
part A text: BANK0
part B text: BANK13
part C text: BANK34
part D text: BANK35
part E text: BANK112
part F text: BANK500
part G text: BANK501
part H text: BANK502
part I text: VCC

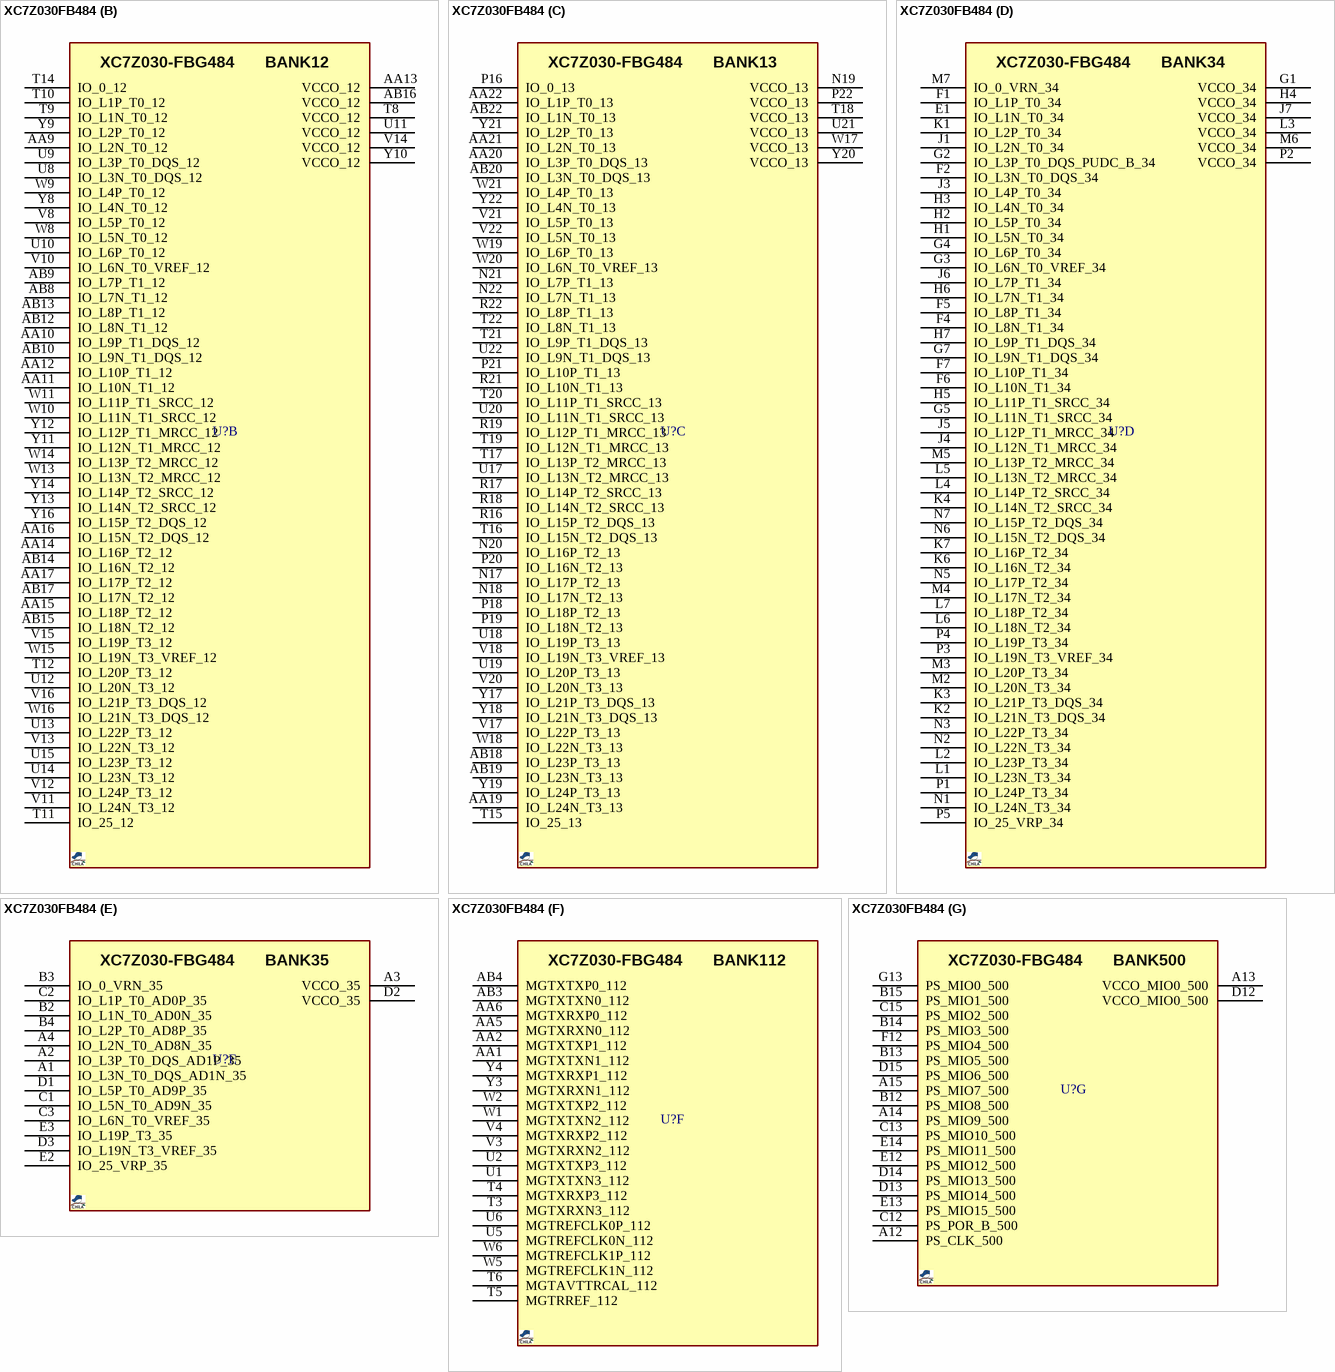
[diagram p7: symbol XC7Z030FB484]

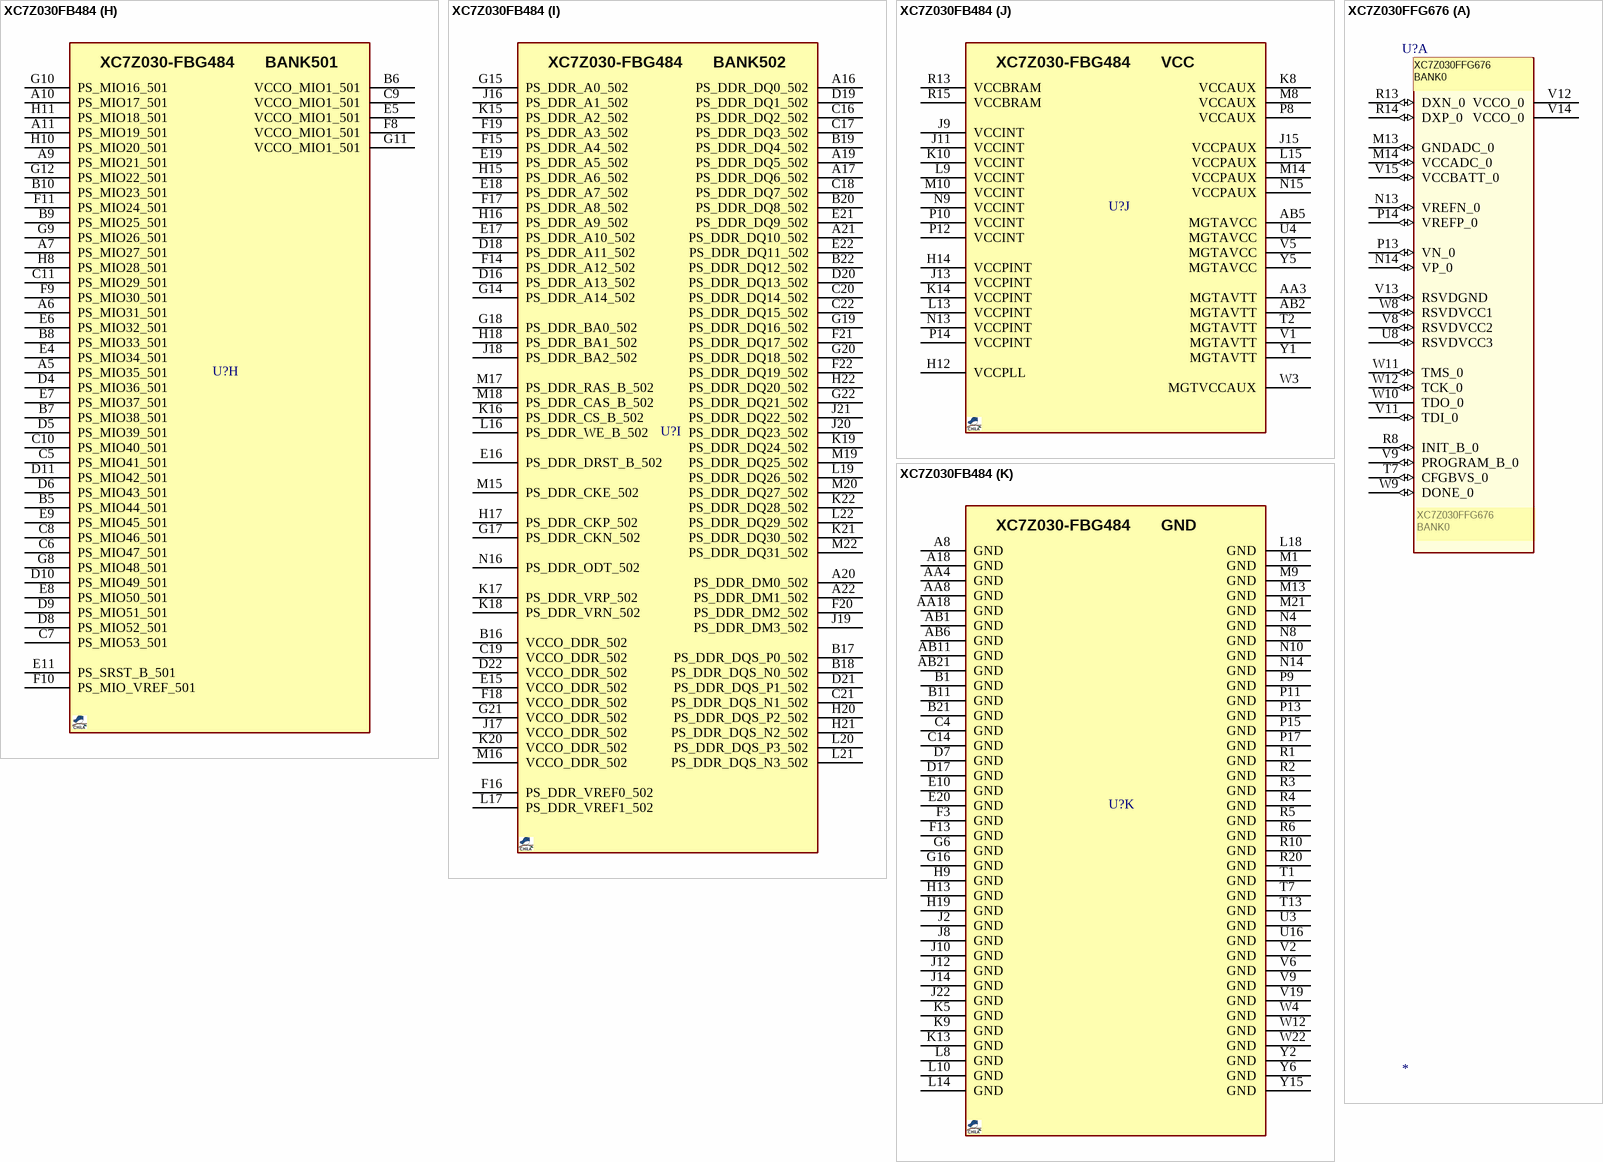
[diagram p8: symbols XC7Z030FB484 to XC7Z030FFG676]

## XC7Z030FB484
designator U?, comment XC7Z030-FBG484  (value not drawn)
SoC Zynq 7030, Kintex-7 FPGA 125K Logic Cells, Dual ARM Cortex-A9 800MHz; MANF: XILINX; MANF_P#: XC7Z030-L2FBG484I; VALUE: XC7Z030-FBG484
footprint BGA100_484_S2300 (BGA, 484-Leads, Body 23.0x23.0mm,  Pitch 1.00mm)
part A pins: AA7 PROGRAM_B_0, AB7 CFGBVS_0, K11 GNDADC_0, K12 VCCADC_0, L11 VREFN_0, L12 VP_0, M11 VN_0, M12 VREFP_0, N11 DXN_0, N12 DXP_0, P6 VCCO_0, P7 VCCBATT_0, R7 DONE_0, R8 TDI_0, R9 TMS_0, R11 TDO_0, R12 TCK_0, R14 RSVDGND, U7 RSVDVCC3, V7 RSVDVCC1, W7 RSVDVCC2, Y7 INIT_B_0
part B pins: AA9 IO_L2N_T0_12, AA10 IO_L9P_T1_DQS_12, AA11 IO_L10N_T1_12, AA12 IO_L10P_T1_12, AA13 VCCO_12, AA14 IO_L16P_T2_12, AA15 IO_L18P_T2_12, AA16 IO_L15N_T2_DQS_12, AA17 IO_L17P_T2_12, AB8 IO_L7N_T1_12, AB9 IO_L7P_T1_12, AB10 IO_L9N_T1_DQS_12, AB12 IO_L8N_T1_12, AB13 IO_L8P_T1_12, AB14 IO_L16N_T2_12, AB15 IO_L18N_T2_12, AB16 VCCO_12, AB17 IO_L17N_T2_12, T8 VCCO_12, T9 IO_L1N_T0_12, T10 IO_L1P_T0_12, T11 IO_25_12, T12 IO_L20P_T3_12, T14 IO_0_12, U8 IO_L3N_T0_DQS_12, U9 IO_L3P_T0_DQS_12, U10 IO_L6P_T0_12, U11 VCCO_12, U12 IO_L20N_T3_12, U13 IO_L22P_T3_12, U14 IO_L23N_T3_12, U15 IO_L23P_T3_12, V8 IO_L5P_T0_12, V10 IO_L6N_T0_VREF_12, V11 IO_L24N_T3_12, V12 IO_L24P_T3_12, V13 IO_L22N_T3_12, V14 VCCO_12, V15 IO_L19P_T3_12, V16 IO_L21P_T3_DQS_12, W8 IO_L5N_T0_12, W9 IO_L4P_T0_12, W10 IO_L11N_T1_SRCC_12, W11 IO_L11P_T1_SRCC_12, W13 IO_L13N_T2_MRCC_12, W14 IO_L13P_T2_MRCC_12, W15 IO_L19N_T3_VREF_12, W16 IO_L21N_T3_DQS_12, Y8 IO_L4N_T0_12, Y9 IO_L2P_T0_12, Y10 VCCO_12, Y11 IO_L12N_T1_MRCC_12, Y12 IO_L12P_T1_MRCC_12, Y13 IO_L14N_T2_SRCC_12, Y14 IO_L14P_T2_SRCC_12, Y16 IO_L15P_T2_DQS_12
part C pins: AA19 IO_L24N_T3_13, AA20 IO_L3P_T0_DQS_13, AA21 IO_L2N_T0_13, AA22 IO_L1P_T0_13, AB18 IO_L23P_T3_13, AB19 IO_L23N_T3_13, AB20 IO_L3N_T0_DQS_13, AB22 IO_L1N_T0_13, N17 IO_L17P_T2_13, N18 IO_L17N_T2_13, N19 VCCO_13, N20 IO_L16P_T2_13, N21 IO_L7P_T1_13, N22 IO_L7N_T1_13, P16 IO_0_13, P18 IO_L18P_T2_13, P19 IO_L18N_T2_13, P20 IO_L16N_T2_13, P21 IO_L10P_T1_13, P22 VCCO_13, R16 IO_L15P_T2_DQS_13, R17 IO_L14P_T2_SRCC_13, R18 IO_L14N_T2_SRCC_13, R19 IO_L12P_T1_MRCC_13, R21 IO_L10N_T1_13, R22 IO_L8P_T1_13, T15 IO_25_13, T16 IO_L15N_T2_DQS_13, T17 IO_L13P_T2_MRCC_13, T18 VCCO_13, T19 IO_L12N_T1_MRCC_13, T20 IO_L11P_T1_SRCC_13, T21 IO_L9P_T1_DQS_13, T22 IO_L8N_T1_13, U17 IO_L13N_T2_MRCC_13, U18 IO_L19P_T3_13, U19 IO_L20P_T3_13, U20 IO_L11N_T1_SRCC_13, U21 VCCO_13, U22 IO_L9N_T1_DQS_13, V17 IO_L22P_T3_13, V18 IO_L19N_T3_VREF_13, V20 IO_L20N_T3_13, V21 IO_L5P_T0_13, V22 IO_L5N_T0_13, W17 VCCO_13, W18 IO_L22N_T3_13, W19 IO_L6P_T0_13, W20 IO_L6N_T0_VREF_13, W21 IO_L4P_T0_13, Y17 IO_L21P_T3_DQS_13, Y18 IO_L21N_T3_DQS_13, Y19 IO_L24P_T3_13, Y20 VCCO_13, Y21 IO_L2P_T0_13, Y22 IO_L4N_T0_13
part D pins: E1 IO_L1N_T0_34, F1 IO_L1P_T0_34, F2 IO_L3N_T0_DQS_34, F4 IO_L8N_T1_34, F5 IO_L8P_T1_34, F6 IO_L10N_T1_34, F7 IO_L10P_T1_34, G1 VCCO_34, G2 IO_L3P_T0_DQS_PUDC_B_34, G3 IO_L6N_T0_VREF_34, G4 IO_L6P_T0_34, G5 IO_L11N_T1_SRCC_34, G7 IO_L9N_T1_DQS_34, H1 IO_L5N_T0_34, H2 IO_L5P_T0_34, H3 IO_L4N_T0_34, H4 VCCO_34, H5 IO_L11P_T1_SRCC_34, H6 IO_L7N_T1_34, H7 IO_L9P_T1_DQS_34, J1 IO_L2N_T0_34, J3 IO_L4P_T0_34, J4 IO_L12N_T1_MRCC_34, J5 IO_L12P_T1_MRCC_34, J6 IO_L7P_T1_34, J7 VCCO_34, K1 IO_L2P_T0_34, K2 IO_L21N_T3_DQS_34, K3 IO_L21P_T3_DQS_34, K4 IO_L14N_T2_SRCC_34, K6 IO_L16N_T2_34, K7 IO_L16P_T2_34, L1 IO_L23N_T3_34, L2 IO_L23P_T3_34, L3 VCCO_34, L4 IO_L14P_T2_SRCC_34, L5 IO_L13N_T2_MRCC_34, L6 IO_L18N_T2_34, L7 IO_L18P_T2_34, M2 IO_L20N_T3_34, M3 IO_L20P_T3_34, M4 IO_L17N_T2_34, M5 IO_L13P_T2_MRCC_34, M6 VCCO_34, M7 IO_0_VRN_34, N1 IO_L24N_T3_34, N2 IO_L22N_T3_34, N3 IO_L22P_T3_34, N5 IO_L17P_T2_34, N6 IO_L15N_T2_DQS_34, N7 IO_L15P_T2_DQS_34, P1 IO_L24P_T3_34, P2 VCCO_34, P3 IO_L19N_T3_VREF_34, P4 IO_L19P_T3_34, P5 IO_25_VRP_34
part E pins: A1 IO_L3N_T0_DQS_AD1N_35, A2 IO_L3P_T0_DQS_AD1P_35, A3 VCCO_35, A4 IO_L2N_T0_AD8N_35, B2 IO_L1N_T0_AD0N_35, B3 IO_0_VRN_35, B4 IO_L2P_T0_AD8P_35, C1 IO_L5N_T0_AD9N_35, C2 IO_L1P_T0_AD0P_35, C3 IO_L6N_T0_VREF_35, D1 IO_L5P_T0_AD9P_35, D2 VCCO_35, D3 IO_L19N_T3_VREF_35, E2 IO_25_VRP_35, E3 IO_L19P_T3_35
part F pins: AA1 MGTXTXN1_112, AA2 MGTXTXP1_112, AA5 MGTXRXN0_112, AA6 MGTXRXP0_112, AB3 MGTXTXN0_112, AB4 MGTXTXP0_112, T3 MGTXRXN3_112, T4 MGTXRXP3_112, T5 MGTRREF_112, T6 MGTAVTTRCAL_112, U1 MGTXTXN3_112, U2 MGTXTXP3_112, U5 MGTREFCLK0N_112, U6 MGTREFCLK0P_112, V3 MGTXRXN2_112, V4 MGTXRXP2_112, W1 MGTXTXN2_112, W2 MGTXTXP2_112, W5 MGTREFCLK1N_112, W6 MGTREFCLK1P_112, Y3 MGTXRXN1_112, Y4 MGTXRXP1_112
part G pins: A12 PS_CLK_500, A13 VCCO_MIO0_500, A14 PS_MIO9_500, A15 PS_MIO7_500, B12 PS_MIO8_500, B13 PS_MIO5_500, B14 PS_MIO3_500, B15 PS_MIO1_500, C12 PS_POR_B_500, C13 PS_MIO10_500, C15 PS_MIO2_500, D12 VCCO_MIO0_500, D13 PS_MIO14_500, D14 PS_MIO13_500, D15 PS_MIO6_500, E12 PS_MIO12_500, E13 PS_MIO15_500, E14 PS_MIO11_500, F12 PS_MIO4_500, G13 PS_MIO0_500
part H pins: A5 PS_MIO35_501, A6 PS_MIO31_501, A7 PS_MIO27_501, A9 PS_MIO21_501, A10 PS_MIO17_501, A11 PS_MIO19_501, B5 PS_MIO44_501, B6 VCCO_MIO1_501, B7 PS_MIO38_501, B8 PS_MIO33_501, B9 PS_MIO25_501, B10 PS_MIO23_501, C5 PS_MIO41_501, C6 PS_MIO47_501, C7 PS_MIO53_501, C8 PS_MIO46_501, C9 VCCO_MIO1_501, C10 PS_MIO40_501, C11 PS_MIO29_501, D4 PS_MIO36_501, D5 PS_MIO39_501, D6 PS_MIO43_501, D8 PS_MIO52_501, D9 PS_MIO51_501, D10 PS_MIO49_501, D11 PS_MIO42_501, E4 PS_MIO34_501, E5 VCCO_MIO1_501, E6 PS_MIO32_501, E7 PS_MIO37_501, E8 PS_MIO50_501, E9 PS_MIO45_501, E11 PS_SRST_B_501, F8 VCCO_MIO1_501, F9 PS_MIO30_501, F10 PS_MIO_VREF_501, F11 PS_MIO24_501, G8 PS_MIO48_501, G9 PS_MIO26_501, G10 PS_MIO16_501, G11 VCCO_MIO1_501, G12 PS_MIO22_501, H8 PS_MIO28_501, H10 PS_MIO20_501, H11 PS_MIO18_501
part I pins: A16 PS_DDR_DQ0_502, A17 PS_DDR_DQ6_502, A19 PS_DDR_DQ5_502, A20 PS_DDR_DM0_502, A21 PS_DDR_DQ10_502, A22 PS_DDR_DM1_502, B16 VCCO_DDR_502, B17 PS_DDR_DQS_P0_502, B18 PS_DDR_DQS_N0_502, B19 PS_DDR_DQ4_502, B20 PS_DDR_DQ8_502, B22 PS_DDR_DQ12_502, C16 PS_DDR_DQ2_502, C17 PS_DDR_DQ3_502, C18 PS_DDR_DQ7_502, C19 VCCO_DDR_502, C20 PS_DDR_DQ14_502, C21 PS_DDR_DQS_N1_502, C22 PS_DDR_DQ15_502, D16 PS_DDR_A13_502, D18 PS_DDR_A11_502, D19 PS_DDR_DQ1_502, D20 PS_DDR_DQ13_502, D21 PS_DDR_DQS_P1_502, D22 VCCO_DDR_502, E15 VCCO_DDR_502, E16 PS_DDR_DRST_B_502, E17 PS_DDR_A10_502, E18 PS_DDR_A7_502, E19 PS_DDR_A5_502, E21 PS_DDR_DQ9_502, E22 PS_DDR_DQ11_502, F14 PS_DDR_A12_502, F15 PS_DDR_A4_502, F16 PS_DDR_VREF0_502, F17 PS_DDR_A8_502, F18 VCCO_DDR_502, F19 PS_DDR_A3_502, F20 PS_DDR_DM2_502, F21 PS_DDR_DQ17_502, F22 PS_DDR_DQ19_502, G14 PS_DDR_A14_502, G15 PS_DDR_A0_502, G17 PS_DDR_CKN_502, G18 PS_DDR_BA0_502, G19 PS_DDR_DQ16_502, G20 PS_DDR_DQ18_502, G21 VCCO_DDR_502, G22 PS_DDR_DQ21_502, H15 PS_DDR_A6_502, H16 PS_DDR_A9_502, H17 PS_DDR_CKP_502, H18 PS_DDR_BA1_502, H20 PS_DDR_DQS_P2_502, H21 PS_DDR_DQS_N2_502, H22 PS_DDR_DQ20_502, J16 PS_DDR_A1_502, J17 VCCO_DDR_502, J18 PS_DDR_BA2_502, J19 PS_DDR_DM3_502, J20 PS_DDR_DQ23_502, J21 PS_DDR_DQ22_502, K15 PS_DDR_A2_502, K16 PS_DDR_CS_B_502, K17 PS_DDR_VRP_502, K18 PS_DDR_VRN_502, K19 PS_DDR_DQ24_502, K20 VCCO_DDR_502, K21 PS_DDR_DQ30_502, K22 PS_DDR_DQ28_502, L16 PS_DDR_WE_B_502, L17 PS_DDR_VREF1_502, L19 PS_DDR_DQ26_502, L20 PS_DDR_DQS_P3_502, L21 PS_DDR_DQS_N3_502, L22 PS_DDR_DQ29_502, M15 PS_DDR_CKE_502, M16 VCCO_DDR_502, M17 PS_DDR_RAS_B_502, M18 PS_DDR_CAS_B_502, M19 PS_DDR_DQ25_502, M20 PS_DDR_DQ27_502, M22 PS_DDR_DQ31_502, N16 PS_DDR_ODT_502
part J pins: AA3 MGTAVTT, AB2 MGTAVTT, AB5 MGTAVCC, H12 VCCPLL, H14 VCCPINT, J9 VCCINT, J11 VCCINT, J13 VCCPINT, J15 VCCPAUX, K8 VCCAUX, K10 VCCINT, K14 VCCPINT, L9 VCCINT, L13 VCCPINT, L15 VCCPAUX, M8 VCCAUX, M10 VCCINT, M14 VCCPAUX, N9 VCCINT, N13 VCCPINT, N15 VCCPAUX, P8 VCCAUX, P10 VCCINT, P12 VCCINT, P14 VCCPINT, R13 VCCBRAM, R15 VCCBRAM, T2 MGTAVTT, U4 MGTAVCC, V1 MGTAVTT, V5 MGTAVCC, W3 MGTVCCAUX, Y1 MGTAVTT, Y5 MGTAVCC
part K pins: A8 GND, A18 GND, AA4 GND, AA8 GND, AA18 GND, AB1 GND, AB6 GND, AB11 GND, AB21 GND, B1 GND, B11 GND, B21 GND, C4 GND, C14 GND, D7 GND, D17 GND, E10 GND, E20 GND, F3 GND, F13 GND, G6 GND, G16 GND, H9 GND, H13 GND, H19 GND, J2 GND, J8 GND, J10 GND, J12 GND, J14 GND, J22 GND, K5 GND, K9 GND, K13 GND, L8 GND, L10 GND, L14 GND, L18 GND, M1 GND, M9 GND, M13 GND, M21 GND, N4 GND, N8 GND, N10 GND, N14 GND, P9 GND, P11 GND, P13 GND, P15 GND, P17 GND, R1 GND, R2 GND, R3 GND, R4 GND, R5 GND, R6 GND, R10 GND, R20 GND, T1 GND, T7 GND, T13 GND, U3 GND, U16 GND, V2 GND, V6 GND, V9 GND, V19 GND, W4 GND, W12 GND, W22 GND, Y2 GND, Y6 GND, Y15 GND
part A text: BANK0
part B text: BANK12
part C text: BANK13
part D text: BANK34
part E text: BANK35
part F text: BANK112
part G text: BANK500
part H text: BANK501
part I text: BANK502
part J text: VCC

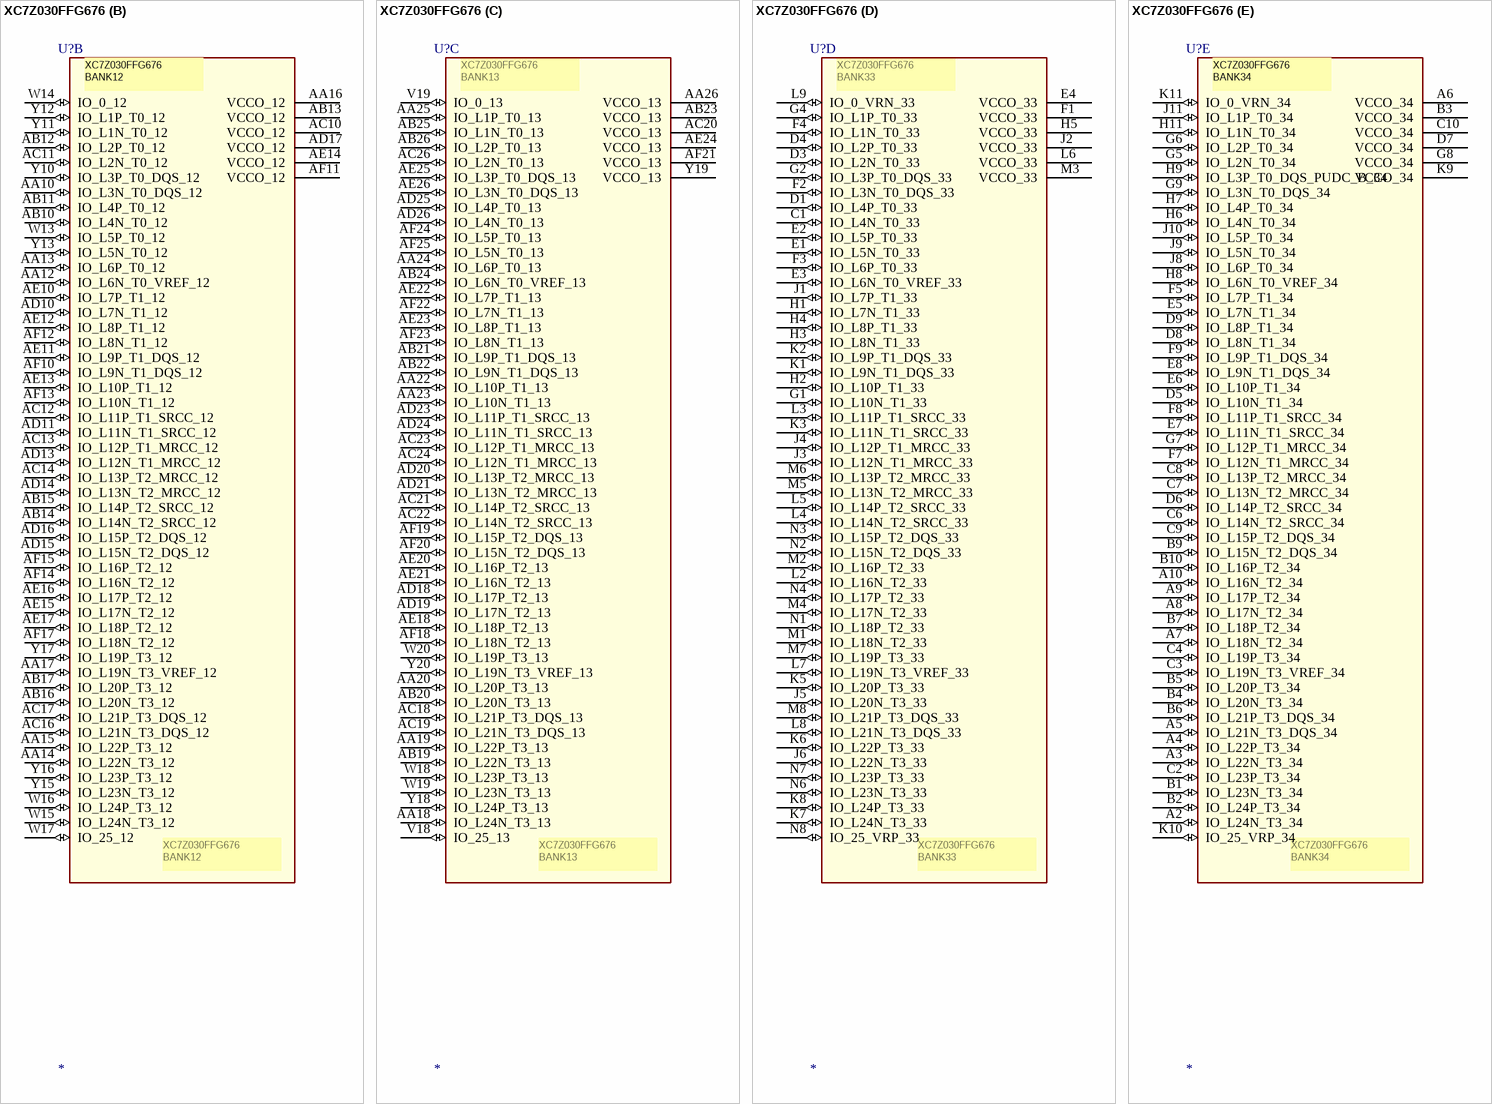
[diagram p9: symbol XC7Z030FFG676]

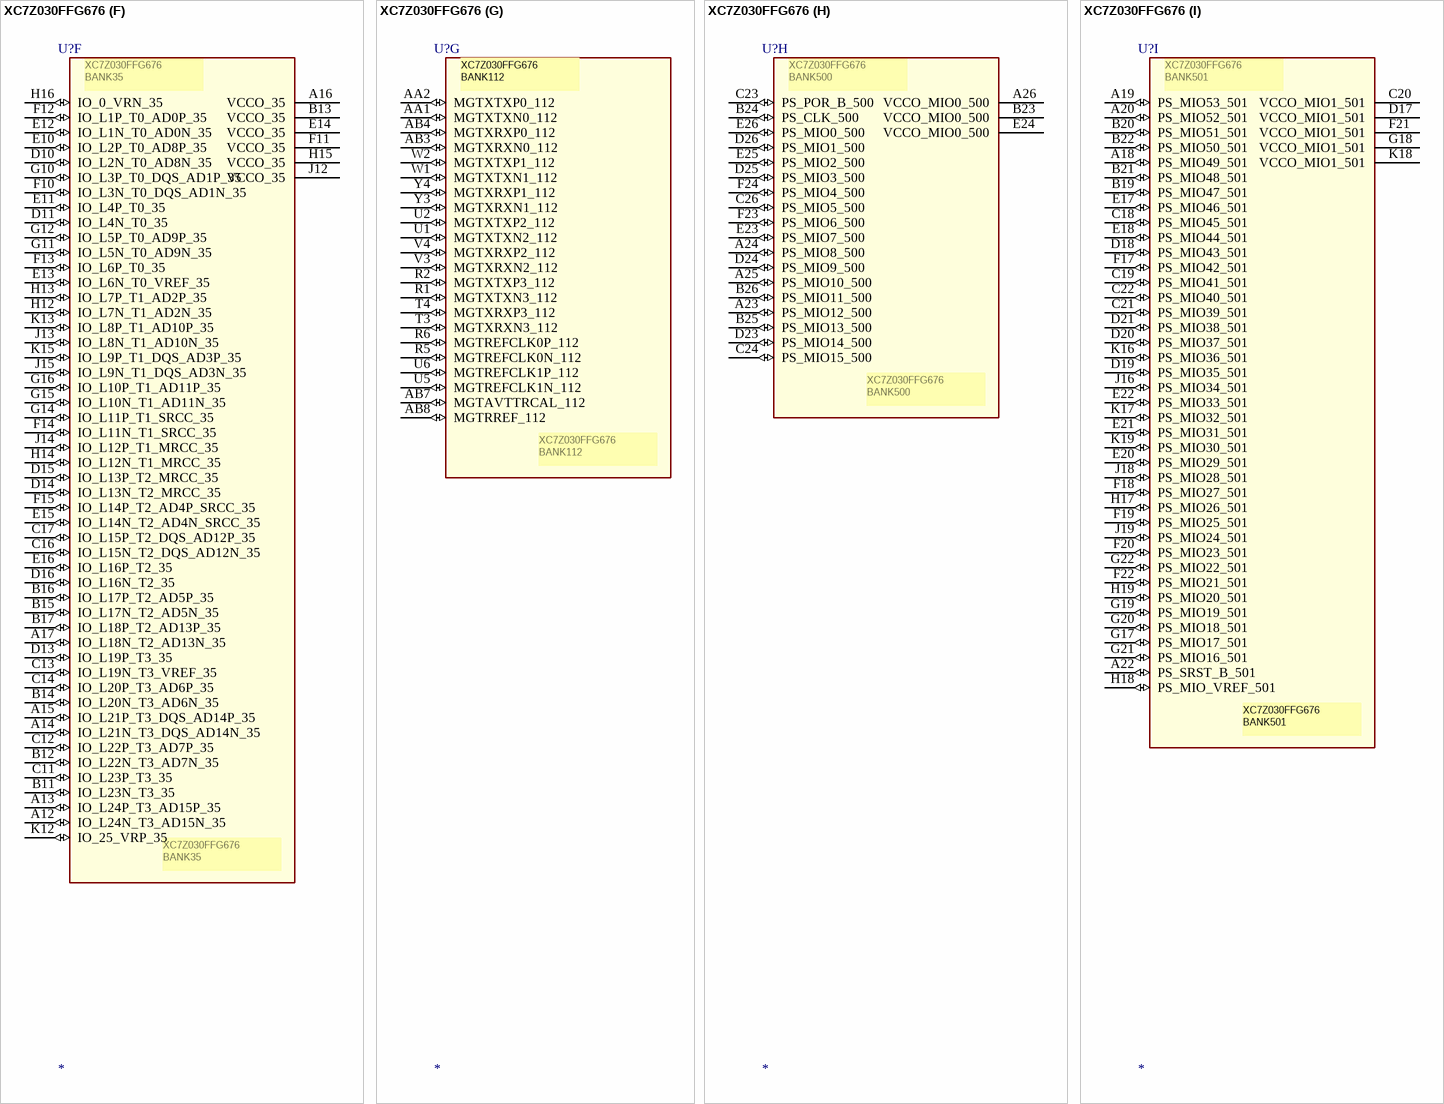
[diagram p10: symbol XC7Z030FFG676]

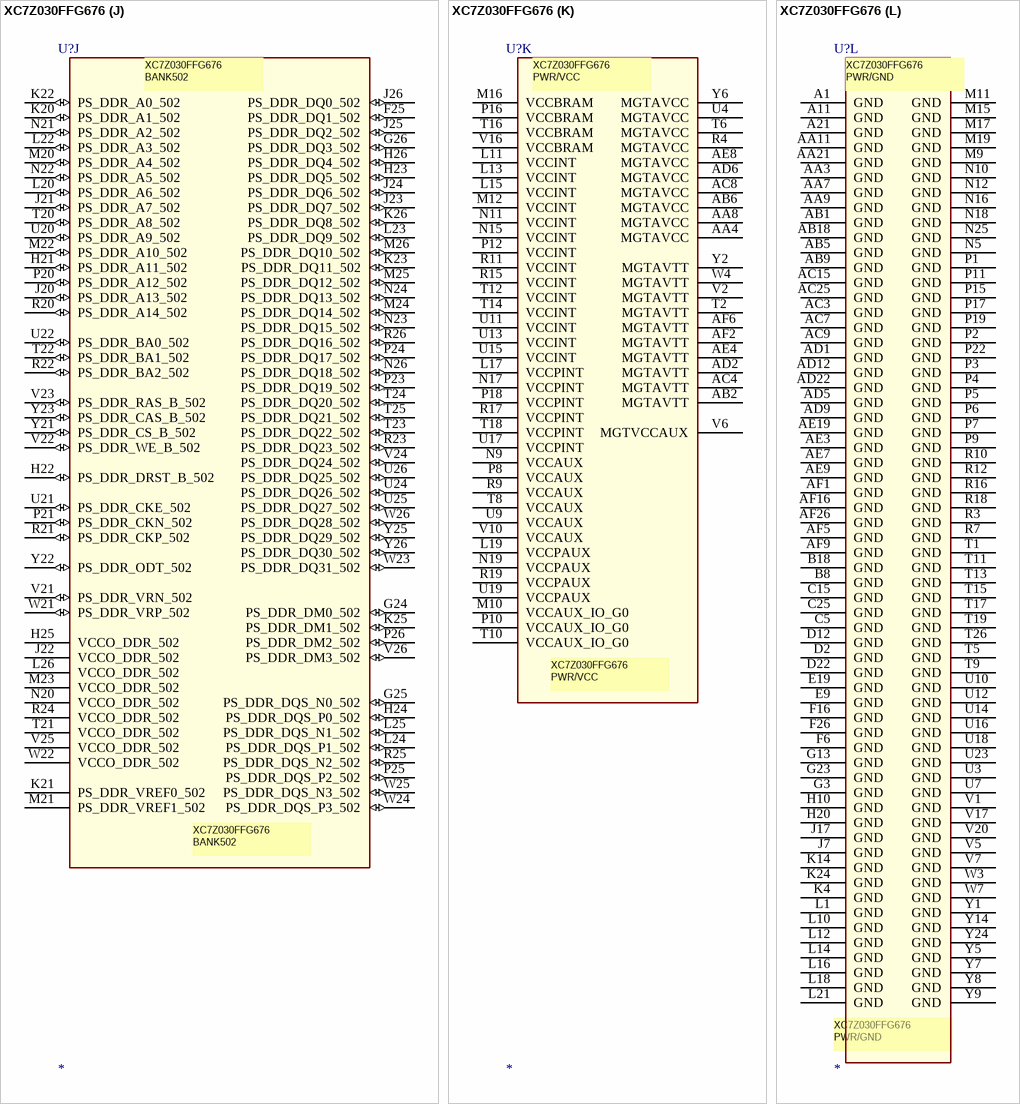
[diagram p11: symbol XC7Z030FFG676]